# Altium schematic symbol library Xilinx Artix-7.SchLib: 78 symbols (part 5 of 23)
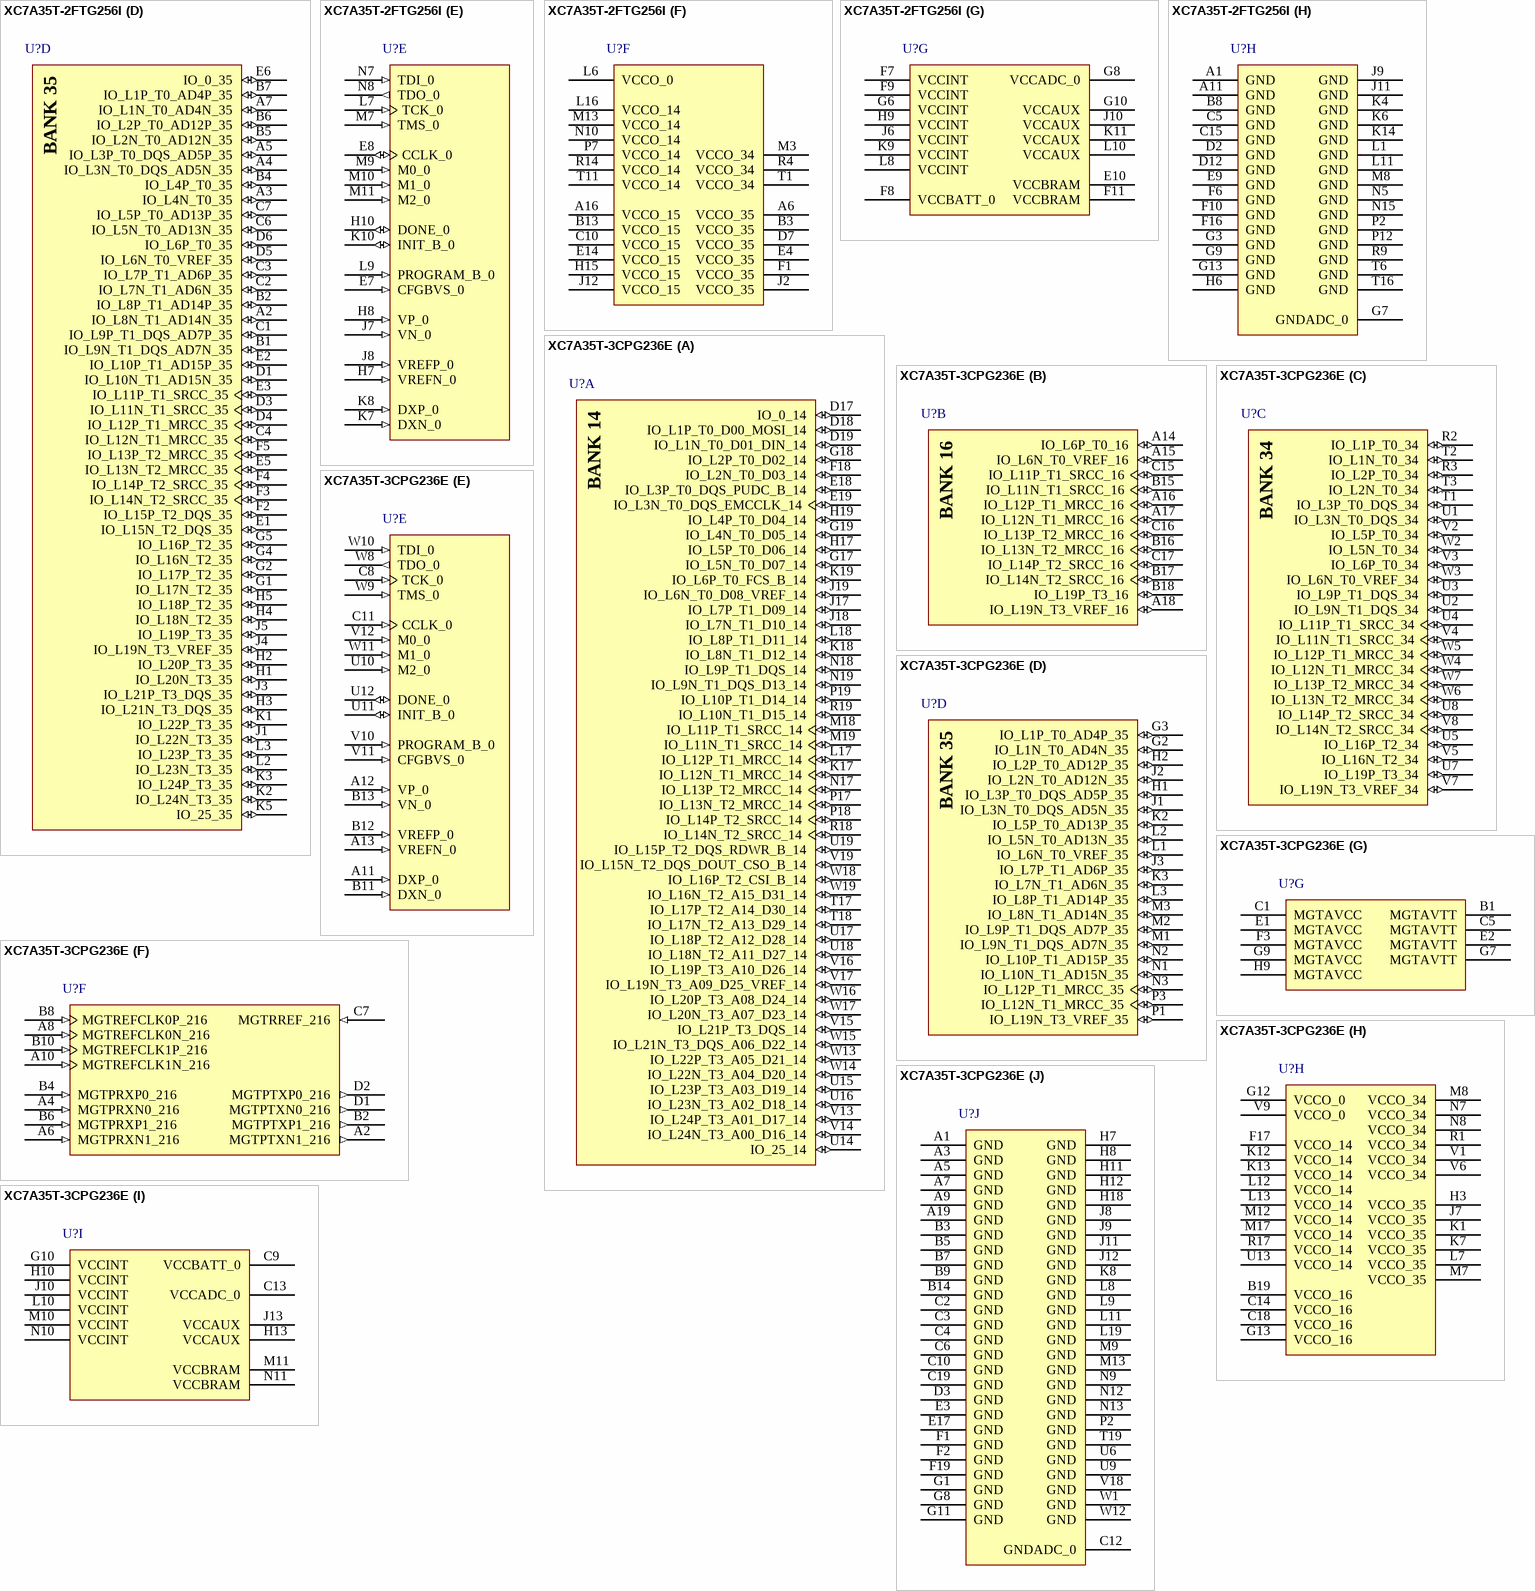
[diagram p131: symbols XC7A35T-2FTG256I to XC7A35T-3CPG236E]

## XC7A35T-3CPG236E
designator U?
Artix-7 FPGA, 106 User I/Os, 2 GTP, 238-Ball BGA, Speed Grade 3, Extended Grade, Pb-Free; Manufacturer: Xilinx; Total Block RAM: 1800 Kb; GTP: 2; Clock Mgmt Tiles (CMTs): 5; Logic Cells: 33280; Available User I/O: 106; Speed Grades: 3; NexusDeviceID: XC7A35T-3CPG236E; DatasheetVersion: v1.15; PackageVersion: Rev. 1.11; PackageReference: CPG-236; PackageDescription: 238-Ball Wire-Bond Chip-Scale BGA, Body 10 x10 mm, Pitch 0.5 mm; Maximum Distributed RAM: 400 Kb; Operating Temperature Range: Extended; Mounting Technology: Surface Mount; PartNumber: XC7A35T-3CPG236E; ComponentLink1Description: Manufacturer URL; ComponentLink1URL: http://www.xilinx.com/; ComponentLink2Description: Datasheet; ComponentLink2URL: http://www.xilinx.com/support/documentation/data_sheets/ds180_7Series_Overview.pdf; ComponentLink3Description: Package Specification; ComponentLink3URL: http://www.xilinx.com/support/documentation/user_guides/ug475_7Series_Pkg_Pinout.pdf; ComponentLink4Description: DC and Switching Characteristics; ComponentLink4URL: http://www.xilinx.com/support/documentation/data_sheets/ds181_Artix_7_Data_Sheet.pdf; ComponentLink5Description: Package File; ComponentLink5URL: http://www.xilinx.com/support/packagefiles/a7packages/xc7a200tsbg484pkg.txt; ComponentLink6Description: Packaging and Pinout; ComponentLink6URL: http://www.xilinx.com/support/documentation/user_guides/ug475_7Series_Pkg_Pinout.pdf
footprint CPG236 (BGA, 238-Ball, Body 10x10mm,Pitch 0.5mm)
part A pins: D17 IO_0_14 (io), D18 IO_L1P_T0_D00_MOSI_14 (io), D19 IO_L1N_T0_D01_DIN_14 (io), E18 IO_L3P_T0_DQS_PUDC_B_14 (io), E19 IO_L3N_T0_DQS_EMCCLK_14 (io), F18 IO_L2N_T0_D03_14 (io), G17 IO_L5N_T0_D07_14 (io), G18 IO_L2P_T0_D02_14 (io), G19 IO_L4N_T0_D05_14 (io), H17 IO_L5P_T0_D06_14 (io), H19 IO_L4P_T0_D04_14 (io), J17 IO_L7P_T1_D09_14 (io), J18 IO_L7N_T1_D10_14 (io), J19 IO_L6N_T0_D08_VREF_14 (io), K17 IO_L12N_T1_MRCC_14 (io), K18 IO_L8N_T1_D12_14 (io), K19 IO_L6P_T0_FCS_B_14 (io), L17 IO_L12P_T1_MRCC_14 (io), L18 IO_L8P_T1_D11_14 (io), M18 IO_L11P_T1_SRCC_14 (io), M19 IO_L11N_T1_SRCC_14 (io), N17 IO_L13P_T2_MRCC_14 (io), N18 IO_L9P_T1_DQS_14 (io), N19 IO_L9N_T1_DQS_D13_14 (io), P17 IO_L13N_T2_MRCC_14 (io), P18 IO_L14P_T2_SRCC_14 (io), P19 IO_L10P_T1_D14_14 (io), R18 IO_L14N_T2_SRCC_14 (io), R19 IO_L10N_T1_D15_14 (io), T17 IO_L17P_T2_A14_D30_14 (io), T18 IO_L17N_T2_A13_D29_14 (io), U14 IO_25_14 (io), U15 IO_L23P_T3_A03_D19_14 (io), U16 IO_L23N_T3_A02_D18_14 (io), U17 IO_L18P_T2_A12_D28_14 (io), U18 IO_L18N_T2_A11_D27_14 (io), U19 IO_L15P_T2_DQS_RDWR_B_14 (io), V13 IO_L24P_T3_A01_D17_14 (io), V14 IO_L24N_T3_A00_D16_14 (io), V15 IO_L21P_T3_DQS_14 (io), V16 IO_L19P_T3_A10_D26_14 (io), V17 IO_L19N_T3_A09_D25_VREF_14 (io), V19 IO_L15N_T2_DQS_DOUT_CSO_B_14 (io), W13 IO_L22P_T3_A05_D21_14 (io), W14 IO_L22N_T3_A04_D20_14 (io), W15 IO_L21N_T3_DQS_A06_D22_14 (io), W16 IO_L20P_T3_A08_D24_14 (io), W17 IO_L20N_T3_A07_D23_14 (io), W18 IO_L16P_T2_CSI_B_14 (io), W19 IO_L16N_T2_A15_D31_14 (io)
part B pins: A14 IO_L6P_T0_16 (io), A15 IO_L6N_T0_VREF_16 (io), A16 IO_L12P_T1_MRCC_16 (io), A17 IO_L12N_T1_MRCC_16 (io), A18 IO_L19N_T3_VREF_16 (io), B15 IO_L11N_T1_SRCC_16 (io), B16 IO_L13N_T2_MRCC_16 (io), B17 IO_L14N_T2_SRCC_16 (io), B18 IO_L19P_T3_16 (io), C15 IO_L11P_T1_SRCC_16 (io), C16 IO_L13P_T2_MRCC_16 (io), C17 IO_L14P_T2_SRCC_16 (io)
part C pins: R2 IO_L1P_T0_34 (io), R3 IO_L2P_T0_34 (io), T1 IO_L3P_T0_DQS_34 (io), T2 IO_L1N_T0_34 (io), T3 IO_L2N_T0_34 (io), U1 IO_L3N_T0_DQS_34 (io), U2 IO_L9N_T1_DQS_34 (io), U3 IO_L9P_T1_DQS_34 (io), U4 IO_L11P_T1_SRCC_34 (io), U5 IO_L16P_T2_34 (io), U7 IO_L19P_T3_34 (io), U8 IO_L14P_T2_SRCC_34 (io), V2 IO_L5P_T0_34 (io), V3 IO_L6P_T0_34 (io), V4 IO_L11N_T1_SRCC_34 (io), V5 IO_L16N_T2_34 (io), V7 IO_L19N_T3_VREF_34 (io), V8 IO_L14N_T2_SRCC_34 (io), W2 IO_L5N_T0_34 (io), W3 IO_L6N_T0_VREF_34 (io), W4 IO_L12N_T1_MRCC_34 (io), W5 IO_L12P_T1_MRCC_34 (io), W6 IO_L13N_T2_MRCC_34 (io), W7 IO_L13P_T2_MRCC_34 (io)
part D pins: G2 IO_L1N_T0_AD4N_35 (io), G3 IO_L1P_T0_AD4P_35 (io), H1 IO_L3P_T0_DQS_AD5P_35 (io), H2 IO_L2P_T0_AD12P_35 (io), J1 IO_L3N_T0_DQS_AD5N_35 (io), J2 IO_L2N_T0_AD12N_35 (io), J3 IO_L7P_T1_AD6P_35 (io), K2 IO_L5P_T0_AD13P_35 (io), K3 IO_L7N_T1_AD6N_35 (io), L1 IO_L6N_T0_VREF_35 (io), L2 IO_L5N_T0_AD13N_35 (io), L3 IO_L8P_T1_AD14P_35 (io), M1 IO_L9N_T1_DQS_AD7N_35 (io), M2 IO_L9P_T1_DQS_AD7P_35 (io), M3 IO_L8N_T1_AD14N_35 (io), N1 IO_L10N_T1_AD15N_35 (io), N2 IO_L10P_T1_AD15P_35 (io), N3 IO_L12P_T1_MRCC_35 (io), P1 IO_L19N_T3_VREF_35 (io), P3 IO_L12N_T1_MRCC_35 (io)
part E pins: A11 DXP_0 (in), A12 VP_0 (in), A13 VREFN_0 (in), B11 DXN_0 (in), B12 VREFP_0 (in), B13 VN_0 (in), C8 TCK_0 (in), C11 CCLK_0 (in), U10 M2_0 (in), U11 INIT_B_0 (io), U12 DONE_0 (io), V10 PROGRAM_B_0 (in), V11 CFGBVS_0 (in), V12 M0_0 (in), W8 TDO_0 (out), W9 TMS_0 (in), W10 TDI_0 (in), W11 M1_0 (in)
part F pins: A2 MGTPTXN1_216 (out), A4 MGTPRXN0_216 (in), A6 MGTPRXN1_216 (in), A8 MGTREFCLK0N_216 (in), A10 MGTREFCLK1N_216 (in), B2 MGTPTXP1_216 (out), B4 MGTPRXP0_216 (in), B6 MGTPRXP1_216 (in), B8 MGTREFCLK0P_216 (in), B10 MGTREFCLK1P_216 (in), C7 MGTRREF_216 (in), D1 MGTPTXN0_216 (out), D2 MGTPTXP0_216 (out)
part G pins: B1 MGTAVTT (power), C1 MGTAVCC (power), C5 MGTAVTT (power), E1 MGTAVCC (power), E2 MGTAVTT (power), F3 MGTAVCC (power), G7 MGTAVTT (power), G9 MGTAVCC (power), H9 MGTAVCC (power)
part H pins: B19 VCCO_16 (power), C14 VCCO_16 (power), C18 VCCO_16 (power), F17 VCCO_14 (power), G12 VCCO_0 (power), G13 VCCO_16 (power), H3 VCCO_35 (power), J7 VCCO_35 (power), K1 VCCO_35 (power), K7 VCCO_35 (power), K12 VCCO_14 (power), K13 VCCO_14 (power), L7 VCCO_35 (power), L12 VCCO_14 (power), L13 VCCO_14 (power), M7 VCCO_35 (power), M8 VCCO_34 (power), M12 VCCO_14 (power), M17 VCCO_14 (power), N7 VCCO_34 (power), N8 VCCO_34 (power), R1 VCCO_34 (power), R17 VCCO_14 (power), U13 VCCO_14 (power), V1 VCCO_34 (power), V6 VCCO_34 (power), V9 VCCO_0 (power)
part I pins: C9 VCCBATT_0 (power), C13 VCCADC_0 (power), G10 VCCINT (power), H10 VCCINT (power), H13 VCCAUX (power), J10 VCCINT (power), J13 VCCAUX (power), L10 VCCINT (power), M10 VCCINT (power), M11 VCCBRAM (power), N10 VCCINT (power), N11 VCCBRAM (power)
part J pins: A1 GND (power), A3 GND (power), A5 GND (power), A7 GND (power), A9 GND (power), A19 GND (power), B3 GND (power), B5 GND (power), B7 GND (power), B9 GND (power), B14 GND (power), C2 GND (power), C3 GND (power), C4 GND (power), C6 GND (power), C10 GND (power), C12 GNDADC_0 (power), C19 GND (power), D3 GND (power), E3 GND (power), E17 GND (power), F1 GND (power), F2 GND (power), F19 GND (power), G1 GND (power), G8 GND (power), G11 GND (power), H7 GND (power), H8 GND (power), H11 GND (power), H12 GND (power), H18 GND (power), J8 GND (power), J9 GND (power), J11 GND (power), J12 GND (power), K8 GND (power), L8 GND (power), L9 GND (power), L11 GND (power), L19 GND (power), M9 GND (power), M13 GND (power), N9 GND (power), N12 GND (power), N13 GND (power), P2 GND (power), T19 GND (power), U6 GND (power), U9 GND (power), V18 GND (power), W1 GND (power), W12 GND (power)
part A text: BANK 14
part B text: BANK 16
part C text: BANK 34
part D text: BANK 35

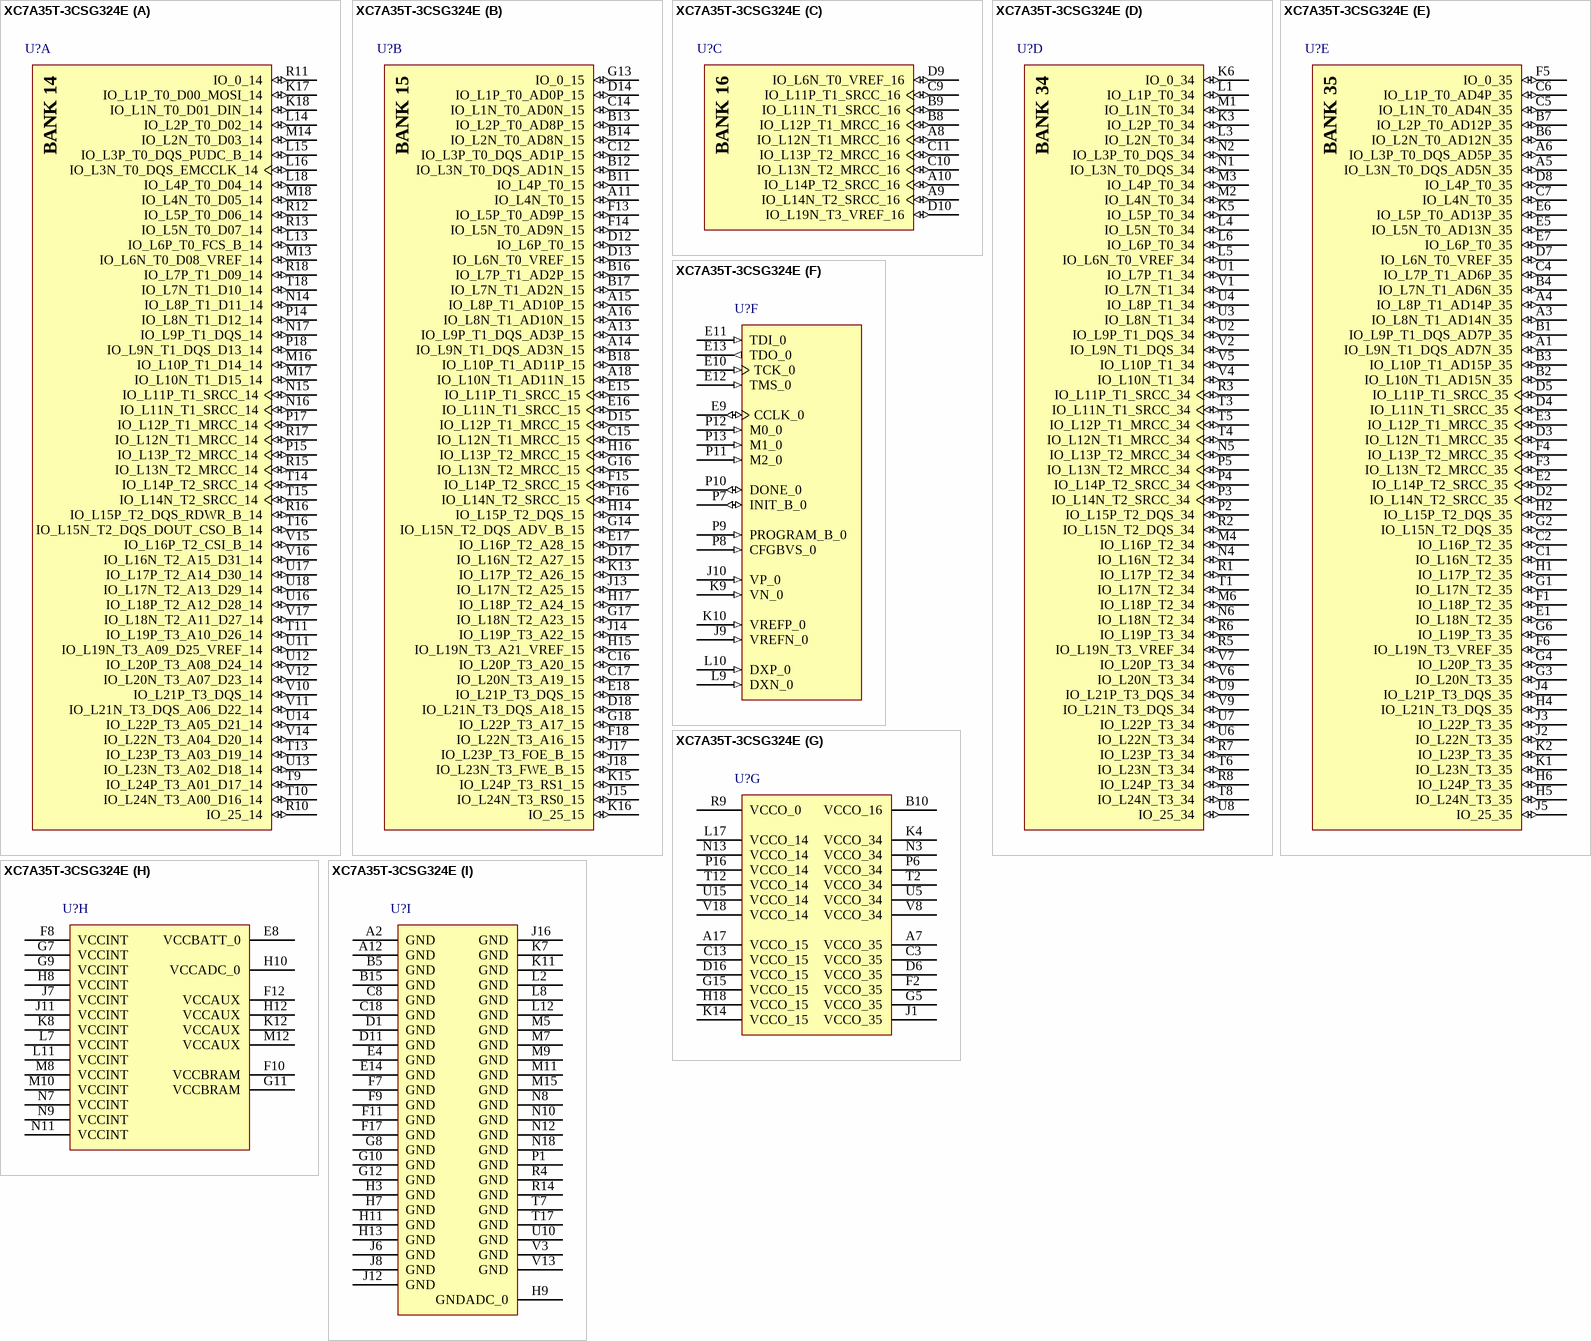
[diagram p21: symbol XC7A35T-3CSG324E]

## XC7A35T-3CSG324E
designator U?
Artix-7 FPGA, 210 User I/Os, 0 GTP, 324-Ball BGA, Speed Grade 3, Extended Grade, Pb-Free; Manufacturer: Xilinx; Total Block RAM: 1800 Kb; GTP: 0; Clock Mgmt Tiles (CMTs): 5; Logic Cells: 33280; Available User I/O: 210; Speed Grades: 3; NexusDeviceID: XC7A35T-3CSG324E; DatasheetVersion: v1.15; PackageVersion: Rev. 1.11; PackageReference: CSG-324; PackageDescription: 324-Ball Wire-Bond Chip-Scale BGA, Body 15 x 15 mm, Pitch 0.8 mm; Maximum Distributed RAM: 400 Kb; Operating Temperature Range: Extended; Mounting Technology: Surface Mount; PartNumber: XC7A35T-3CSG324E; ComponentLink1Description: Manufacturer URL; ComponentLink1URL: http://www.xilinx.com/; ComponentLink2Description: Datasheet; ComponentLink2URL: http://www.xilinx.com/support/documentation/data_sheets/ds180_7Series_Overview.pdf; ComponentLink3Description: Package Specification; ComponentLink3URL: http://www.xilinx.com/support/documentation/user_guides/ug475_7Series_Pkg_Pinout.pdf; ComponentLink4Description: DC and Switching Characteristics; ComponentLink4URL: http://www.xilinx.com/support/documentation/data_sheets/ds181_Artix_7_Data_Sheet.pdf; ComponentLink5Description: Package File; ComponentLink5URL: http://www.xilinx.com/support/packagefiles/a7packages/xc7a200tsbg484pkg.txt; ComponentLink6Description: Packaging and Pinout; ComponentLink6URL: http://www.xilinx.com/support/documentation/user_guides/ug475_7Series_Pkg_Pinout.pdf
footprint CSG324 (BGA, 324-Balls, Body 15x15mm, Pitch 0.8mm)
part A pins: K17 IO_L1P_T0_D00_MOSI_14 (io), K18 IO_L1N_T0_D01_DIN_14 (io), L13 IO_L6P_T0_FCS_B_14 (io), L14 IO_L2P_T0_D02_14 (io), L15 IO_L3P_T0_DQS_PUDC_B_14 (io), L16 IO_L3N_T0_DQS_EMCCLK_14 (io), L18 IO_L4P_T0_D04_14 (io), M13 IO_L6N_T0_D08_VREF_14 (io), M14 IO_L2N_T0_D03_14 (io), M16 IO_L10P_T1_D14_14 (io), M17 IO_L10N_T1_D15_14 (io), M18 IO_L4N_T0_D05_14 (io), N14 IO_L8P_T1_D11_14 (io), N15 IO_L11P_T1_SRCC_14 (io), N16 IO_L11N_T1_SRCC_14 (io), N17 IO_L9P_T1_DQS_14 (io), P14 IO_L8N_T1_D12_14 (io), P15 IO_L13P_T2_MRCC_14 (io), P17 IO_L12P_T1_MRCC_14 (io), P18 IO_L9N_T1_DQS_D13_14 (io), R10 IO_25_14 (io), R11 IO_0_14 (io), R12 IO_L5P_T0_D06_14 (io), R13 IO_L5N_T0_D07_14 (io), R15 IO_L13N_T2_MRCC_14 (io), R16 IO_L15P_T2_DQS_RDWR_B_14 (io), R17 IO_L12N_T1_MRCC_14 (io), R18 IO_L7P_T1_D09_14 (io), T9 IO_L24P_T3_A01_D17_14 (io), T10 IO_L24N_T3_A00_D16_14 (io), T11 IO_L19P_T3_A10_D26_14 (io), T13 IO_L23P_T3_A03_D19_14 (io), T14 IO_L14P_T2_SRCC_14 (io), T15 IO_L14N_T2_SRCC_14 (io), T16 IO_L15N_T2_DQS_DOUT_CSO_B_14 (io), T18 IO_L7N_T1_D10_14 (io), U11 IO_L19N_T3_A09_D25_VREF_14 (io), U12 IO_L20P_T3_A08_D24_14 (io), U13 IO_L23N_T3_A02_D18_14 (io), U14 IO_L22P_T3_A05_D21_14 (io), U16 IO_L18P_T2_A12_D28_14 (io), U17 IO_L17P_T2_A14_D30_14 (io), U18 IO_L17N_T2_A13_D29_14 (io), V10 IO_L21P_T3_DQS_14 (io), V11 IO_L21N_T3_DQS_A06_D22_14 (io), V12 IO_L20N_T3_A07_D23_14 (io), V14 IO_L22N_T3_A04_D20_14 (io), V15 IO_L16P_T2_CSI_B_14 (io), V16 IO_L16N_T2_A15_D31_14 (io), V17 IO_L18N_T2_A11_D27_14 (io)
part B pins: A11 IO_L4N_T0_15 (io), A13 IO_L9P_T1_DQS_AD3P_15 (io), A14 IO_L9N_T1_DQS_AD3N_15 (io), A15 IO_L8P_T1_AD10P_15 (io), A16 IO_L8N_T1_AD10N_15 (io), A18 IO_L10N_T1_AD11N_15 (io), B11 IO_L4P_T0_15 (io), B12 IO_L3N_T0_DQS_AD1N_15 (io), B13 IO_L2P_T0_AD8P_15 (io), B14 IO_L2N_T0_AD8N_15 (io), B16 IO_L7P_T1_AD2P_15 (io), B17 IO_L7N_T1_AD2N_15 (io), B18 IO_L10P_T1_AD11P_15 (io), C12 IO_L3P_T0_DQS_AD1P_15 (io), C14 IO_L1N_T0_AD0N_15 (io), C15 IO_L12N_T1_MRCC_15 (io), C16 IO_L20P_T3_A20_15 (io), C17 IO_L20N_T3_A19_15 (io), D12 IO_L6P_T0_15 (io), D13 IO_L6N_T0_VREF_15 (io), D14 IO_L1P_T0_AD0P_15 (io), D15 IO_L12P_T1_MRCC_15 (io), D17 IO_L16N_T2_A27_15 (io), D18 IO_L21N_T3_DQS_A18_15 (io), E15 IO_L11P_T1_SRCC_15 (io), E16 IO_L11N_T1_SRCC_15 (io), E17 IO_L16P_T2_A28_15 (io), E18 IO_L21P_T3_DQS_15 (io), F13 IO_L5P_T0_AD9P_15 (io), F14 IO_L5N_T0_AD9N_15 (io), F15 IO_L14P_T2_SRCC_15 (io), F16 IO_L14N_T2_SRCC_15 (io), F18 IO_L22N_T3_A16_15 (io), G13 IO_0_15 (io), G14 IO_L15N_T2_DQS_ADV_B_15 (io), G16 IO_L13N_T2_MRCC_15 (io), G17 IO_L18N_T2_A23_15 (io), G18 IO_L22P_T3_A17_15 (io), H14 IO_L15P_T2_DQS_15 (io), H15 IO_L19N_T3_A21_VREF_15 (io), H16 IO_L13P_T2_MRCC_15 (io), H17 IO_L18P_T2_A24_15 (io), J13 IO_L17N_T2_A25_15 (io), J14 IO_L19P_T3_A22_15 (io), J15 IO_L24N_T3_RS0_15 (io), J17 IO_L23P_T3_FOE_B_15 (io), J18 IO_L23N_T3_FWE_B_15 (io), K13 IO_L17P_T2_A26_15 (io), K15 IO_L24P_T3_RS1_15 (io), K16 IO_25_15 (io)
part C pins: A8 IO_L12N_T1_MRCC_16 (io), A9 IO_L14N_T2_SRCC_16 (io), A10 IO_L14P_T2_SRCC_16 (io), B8 IO_L12P_T1_MRCC_16 (io), B9 IO_L11N_T1_SRCC_16 (io), C9 IO_L11P_T1_SRCC_16 (io), C10 IO_L13N_T2_MRCC_16 (io), C11 IO_L13P_T2_MRCC_16 (io), D9 IO_L6N_T0_VREF_16 (io), D10 IO_L19N_T3_VREF_16 (io)
part D pins: K3 IO_L2P_T0_34 (io), K5 IO_L5P_T0_34 (io), K6 IO_0_34 (io), L1 IO_L1P_T0_34 (io), L3 IO_L2N_T0_34 (io), L4 IO_L5N_T0_34 (io), L5 IO_L6N_T0_VREF_34 (io), L6 IO_L6P_T0_34 (io), M1 IO_L1N_T0_34 (io), M2 IO_L4N_T0_34 (io), M3 IO_L4P_T0_34 (io), M4 IO_L16P_T2_34 (io), M6 IO_L18P_T2_34 (io), N1 IO_L3N_T0_DQS_34 (io), N2 IO_L3P_T0_DQS_34 (io), N4 IO_L16N_T2_34 (io), N5 IO_L13P_T2_MRCC_34 (io), N6 IO_L18N_T2_34 (io), P2 IO_L15P_T2_DQS_34 (io), P3 IO_L14N_T2_SRCC_34 (io), P4 IO_L14P_T2_SRCC_34 (io), P5 IO_L13N_T2_MRCC_34 (io), R1 IO_L17P_T2_34 (io), R2 IO_L15N_T2_DQS_34 (io), R3 IO_L11P_T1_SRCC_34 (io), R5 IO_L19N_T3_VREF_34 (io), R6 IO_L19P_T3_34 (io), R7 IO_L23P_T3_34 (io), R8 IO_L24P_T3_34 (io), T1 IO_L17N_T2_34 (io), T3 IO_L11N_T1_SRCC_34 (io), T4 IO_L12N_T1_MRCC_34 (io), T5 IO_L12P_T1_MRCC_34 (io), T6 IO_L23N_T3_34 (io), T8 IO_L24N_T3_34 (io), U1 IO_L7P_T1_34 (io), U2 IO_L9P_T1_DQS_34 (io), U3 IO_L8N_T1_34 (io), U4 IO_L8P_T1_34 (io), U6 IO_L22N_T3_34 (io), U7 IO_L22P_T3_34 (io), U8 IO_25_34 (io), U9 IO_L21P_T3_DQS_34 (io), V1 IO_L7N_T1_34 (io), V2 IO_L9N_T1_DQS_34 (io), V4 IO_L10N_T1_34 (io), V5 IO_L10P_T1_34 (io), V6 IO_L20N_T3_34 (io), V7 IO_L20P_T3_34 (io), V9 IO_L21N_T3_DQS_34 (io)
part E pins: A1 IO_L9N_T1_DQS_AD7N_35 (io), A3 IO_L8N_T1_AD14N_35 (io), A4 IO_L8P_T1_AD14P_35 (io), A5 IO_L3N_T0_DQS_AD5N_35 (io), A6 IO_L3P_T0_DQS_AD5P_35 (io), B1 IO_L9P_T1_DQS_AD7P_35 (io), B2 IO_L10N_T1_AD15N_35 (io), B3 IO_L10P_T1_AD15P_35 (io), B4 IO_L7N_T1_AD6N_35 (io), B6 IO_L2N_T0_AD12N_35 (io), B7 IO_L2P_T0_AD12P_35 (io), C1 IO_L16N_T2_35 (io), C2 IO_L16P_T2_35 (io), C4 IO_L7P_T1_AD6P_35 (io), C5 IO_L1N_T0_AD4N_35 (io), C6 IO_L1P_T0_AD4P_35 (io), C7 IO_L4N_T0_35 (io), D2 IO_L14N_T2_SRCC_35 (io), D3 IO_L12N_T1_MRCC_35 (io), D4 IO_L11N_T1_SRCC_35 (io), D5 IO_L11P_T1_SRCC_35 (io), D7 IO_L6N_T0_VREF_35 (io), D8 IO_L4P_T0_35 (io), E1 IO_L18N_T2_35 (io), E2 IO_L14P_T2_SRCC_35 (io), E3 IO_L12P_T1_MRCC_35 (io), E5 IO_L5N_T0_AD13N_35 (io), E6 IO_L5P_T0_AD13P_35 (io), E7 IO_L6P_T0_35 (io), F1 IO_L18P_T2_35 (io), F3 IO_L13N_T2_MRCC_35 (io), F4 IO_L13P_T2_MRCC_35 (io), F5 IO_0_35 (io), F6 IO_L19N_T3_VREF_35 (io), G1 IO_L17N_T2_35 (io), G2 IO_L15N_T2_DQS_35 (io), G3 IO_L20N_T3_35 (io), G4 IO_L20P_T3_35 (io), G6 IO_L19P_T3_35 (io), H1 IO_L17P_T2_35 (io), H2 IO_L15P_T2_DQS_35 (io), H4 IO_L21N_T3_DQS_35 (io), H5 IO_L24N_T3_35 (io), H6 IO_L24P_T3_35 (io), J2 IO_L22N_T3_35 (io), J3 IO_L22P_T3_35 (io), J4 IO_L21P_T3_DQS_35 (io), J5 IO_25_35 (io), K1 IO_L23N_T3_35 (io), K2 IO_L23P_T3_35 (io)
part F pins: E9 CCLK_0 (io), E10 TCK_0 (in), E11 TDI_0 (in), E12 TMS_0 (in), E13 TDO_0 (out), J9 VREFN_0 (in), J10 VP_0 (in), K9 VN_0 (in), K10 VREFP_0 (in), L9 DXN_0 (in), L10 DXP_0 (in), P7 INIT_B_0 (io), P8 CFGBVS_0 (in), P9 PROGRAM_B_0 (in), P10 DONE_0 (io), P11 M2_0 (in), P12 M0_0 (in), P13 M1_0 (in)
part G pins: A7 VCCO_35 (power), A17 VCCO_15 (power), B10 VCCO_16 (power), C3 VCCO_35 (power), C13 VCCO_15 (power), D6 VCCO_35 (power), D16 VCCO_15 (power), F2 VCCO_35 (power), G5 VCCO_35 (power), G15 VCCO_15 (power), H18 VCCO_15 (power), J1 VCCO_35 (power), K4 VCCO_34 (power), K14 VCCO_15 (power), L17 VCCO_14 (power), N3 VCCO_34 (power), N13 VCCO_14 (power), P6 VCCO_34 (power), P16 VCCO_14 (power), R9 VCCO_0 (power), T2 VCCO_34 (power), T12 VCCO_14 (power), U5 VCCO_34 (power), U15 VCCO_14 (power), V8 VCCO_34 (power), V18 VCCO_14 (power)
part H pins: E8 VCCBATT_0 (power), F8 VCCINT (power), F10 VCCBRAM (power), F12 VCCAUX (power), G7 VCCINT (power), G9 VCCINT (power), G11 VCCBRAM (power), H8 VCCINT (power), H10 VCCADC_0 (power), H12 VCCAUX (power), J7 VCCINT (power), J11 VCCINT (power), K8 VCCINT (power), K12 VCCAUX (power), L7 VCCINT (power), L11 VCCINT (power), M8 VCCINT (power), M10 VCCINT (power), M12 VCCAUX (power), N7 VCCINT (power), N9 VCCINT (power), N11 VCCINT (power)
part I pins: A2 GND (power), A12 GND (power), B5 GND (power), B15 GND (power), C8 GND (power), C18 GND (power), D1 GND (power), D11 GND (power), E4 GND (power), E14 GND (power), F7 GND (power), F9 GND (power), F11 GND (power), F17 GND (power), G8 GND (power), G10 GND (power), G12 GND (power), H3 GND (power), H7 GND (power), H9 GNDADC_0 (power), H11 GND (power), H13 GND (power), J6 GND (power), J8 GND (power), J12 GND (power), J16 GND (power), K7 GND (power), K11 GND (power), L2 GND (power), L8 GND (power), L12 GND (power), M5 GND (power), M7 GND (power), M9 GND (power), M11 GND (power), M15 GND (power), N8 GND (power), N10 GND (power), N12 GND (power), N18 GND (power), P1 GND (power), R4 GND (power), R14 GND (power), T7 GND (power), T17 GND (power), U10 GND (power), V3 GND (power), V13 GND (power)
part A text: BANK 14
part B text: BANK 15
part C text: BANK 16
part D text: BANK 34
part E text: BANK 35

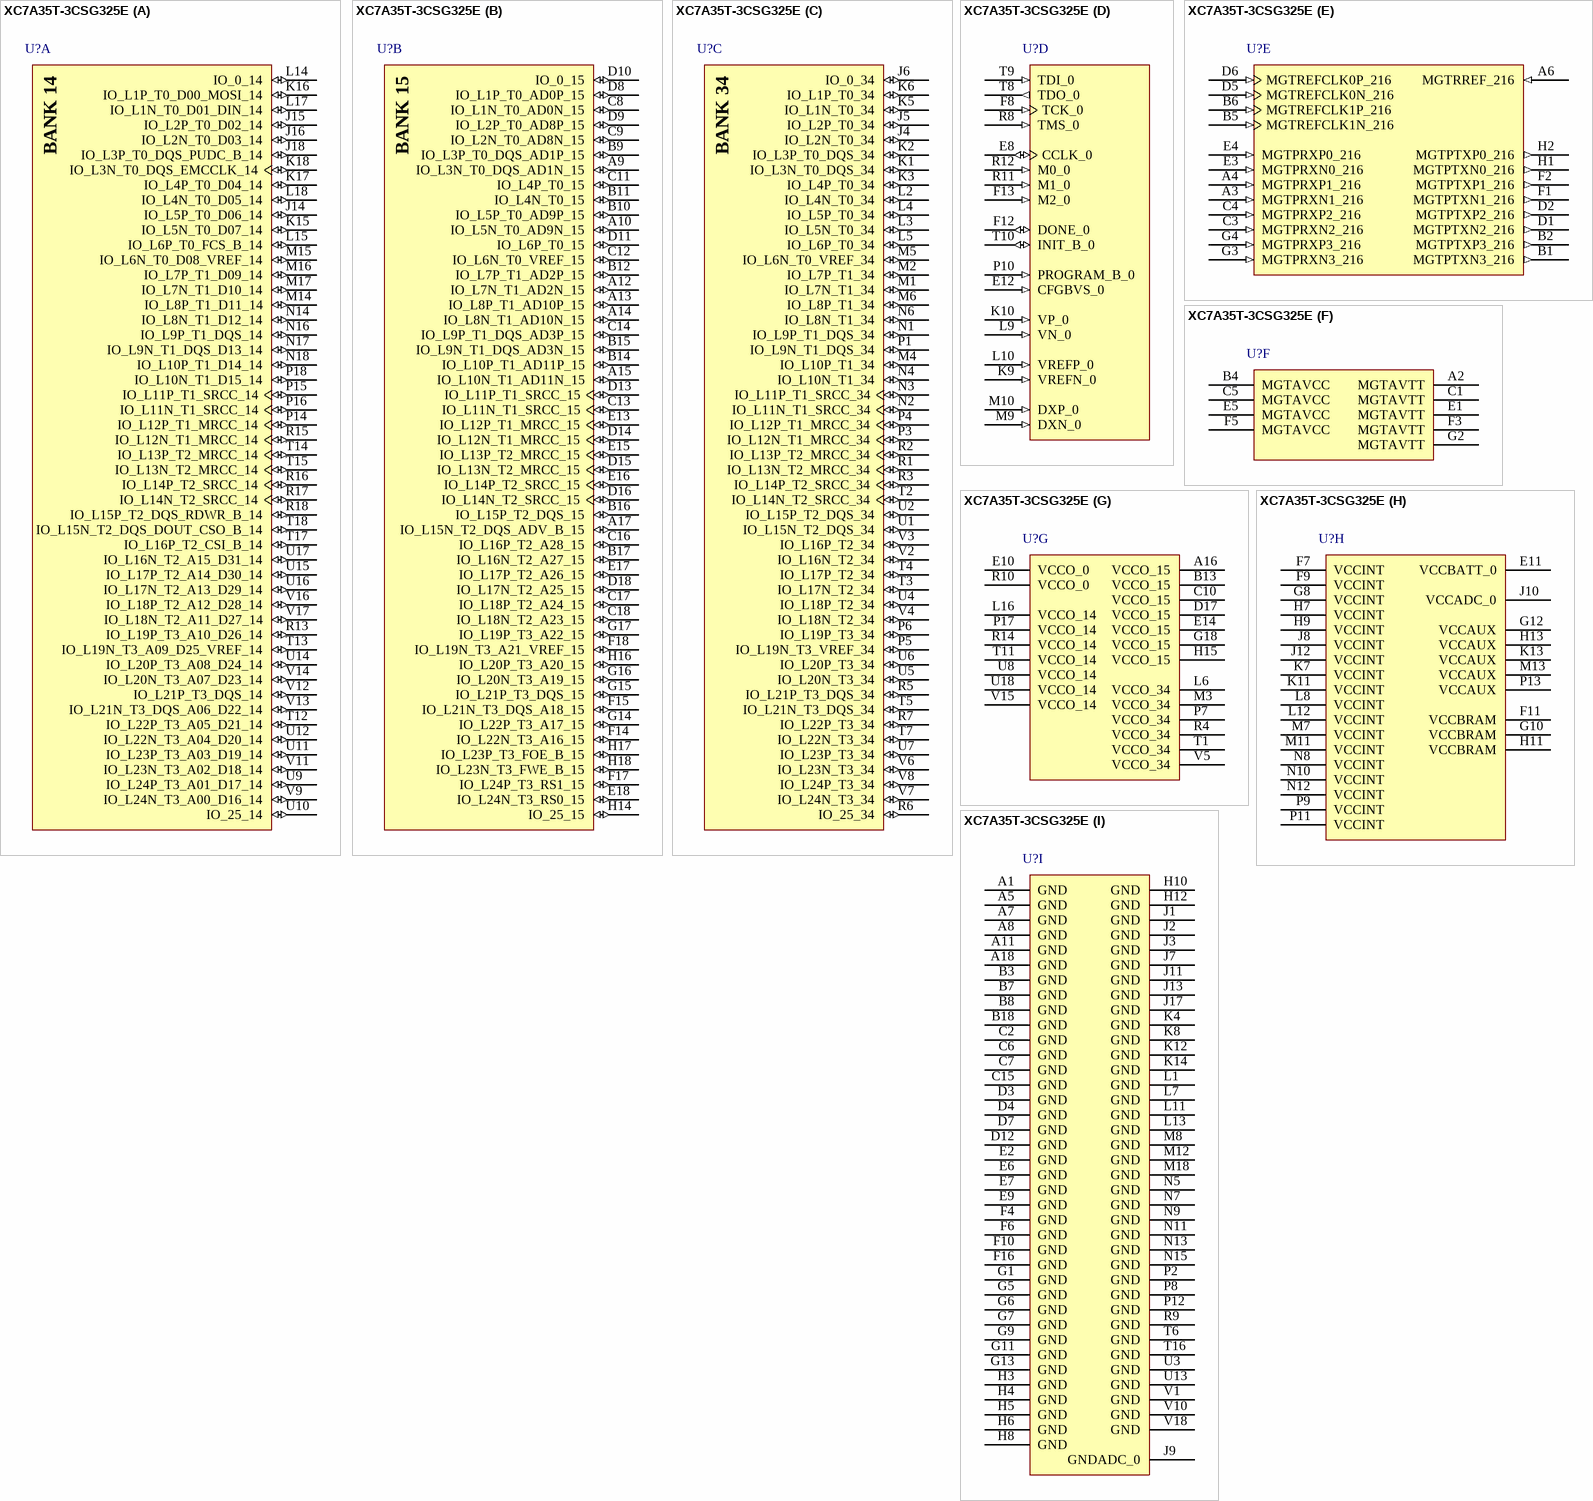
[diagram p22: symbol XC7A35T-3CSG325E]

## XC7A35T-3CSG325E
designator U?
Artix-7 FPGA, 150 User I/Os, 4 GTP, 324-Ball BGA, Speed Grade 3, Extended Grade, Pb-Free; Manufacturer: Xilinx; Total Block RAM: 1800 Kb; GTP: 4; Clock Mgmt Tiles (CMTs): 5; Logic Cells: 33280; Available User I/O: 150; Speed Grades: 3; NexusDeviceID: XC7A35T-3CSG325E; DatasheetVersion: v1.15; PackageVersion: Rev. 1.11; PackageReference: CSG-325; PackageDescription: 324-Ball Wire-Bond Chip-Scale BGA, Body 15 x 15 mm, Pitch 0.8 mm; Maximum Distributed RAM: 400 Kb; Operating Temperature Range: Extended; Mounting Technology: Surface Mount; PartNumber: XC7A35T-3CSG325E; ComponentLink1Description: Manufacturer URL; ComponentLink1URL: http://www.xilinx.com/; ComponentLink2Description: Datasheet; ComponentLink2URL: http://www.xilinx.com/support/documentation/data_sheets/ds180_7Series_Overview.pdf; ComponentLink3Description: Package Specification; ComponentLink3URL: http://www.xilinx.com/support/documentation/user_guides/ug475_7Series_Pkg_Pinout.pdf; ComponentLink4Description: DC and Switching Characteristics; ComponentLink4URL: http://www.xilinx.com/support/documentation/data_sheets/ds181_Artix_7_Data_Sheet.pdf; ComponentLink5Description: Package File; ComponentLink5URL: http://www.xilinx.com/support/packagefiles/a7packages/xc7a200tsbg484pkg.txt; ComponentLink6Description: Packaging and Pinout; ComponentLink6URL: http://www.xilinx.com/support/documentation/user_guides/ug475_7Series_Pkg_Pinout.pdf
footprint CSG325 (BGA, 324-Balls, Body 15x15mm, Pitch 0.8mm)
part A pins: J14 IO_L5P_T0_D06_14 (io), J15 IO_L2P_T0_D02_14 (io), J16 IO_L2N_T0_D03_14 (io), J18 IO_L3P_T0_DQS_PUDC_B_14 (io), K15 IO_L5N_T0_D07_14 (io), K16 IO_L1P_T0_D00_MOSI_14 (io), K17 IO_L4P_T0_D04_14 (io), K18 IO_L3N_T0_DQS_EMCCLK_14 (io), L14 IO_0_14 (io), L15 IO_L6P_T0_FCS_B_14 (io), L17 IO_L1N_T0_D01_DIN_14 (io), L18 IO_L4N_T0_D05_14 (io), M14 IO_L8P_T1_D11_14 (io), M15 IO_L6N_T0_D08_VREF_14 (io), M16 IO_L7P_T1_D09_14 (io), M17 IO_L7N_T1_D10_14 (io), N14 IO_L8N_T1_D12_14 (io), N16 IO_L9P_T1_DQS_14 (io), N17 IO_L9N_T1_DQS_D13_14 (io), N18 IO_L10P_T1_D14_14 (io), P14 IO_L12P_T1_MRCC_14 (io), P15 IO_L11P_T1_SRCC_14 (io), P16 IO_L11N_T1_SRCC_14 (io), P18 IO_L10N_T1_D15_14 (io), R13 IO_L19P_T3_A10_D26_14 (io), R15 IO_L12N_T1_MRCC_14 (io), R16 IO_L14P_T2_SRCC_14 (io), R17 IO_L14N_T2_SRCC_14 (io), R18 IO_L15P_T2_DQS_RDWR_B_14 (io), T12 IO_L22P_T3_A05_D21_14 (io), T13 IO_L19N_T3_A09_D25_VREF_14 (io), T14 IO_L13P_T2_MRCC_14 (io), T15 IO_L13N_T2_MRCC_14 (io), T17 IO_L16P_T2_CSI_B_14 (io), T18 IO_L15N_T2_DQS_DOUT_CSO_B_14 (io), U9 IO_L24P_T3_A01_D17_14 (io), U10 IO_25_14 (io), U11 IO_L23P_T3_A03_D19_14 (io), U12 IO_L22N_T3_A04_D20_14 (io), U14 IO_L20P_T3_A08_D24_14 (io), U15 IO_L17P_T2_A14_D30_14 (io), U16 IO_L17N_T2_A13_D29_14 (io), U17 IO_L16N_T2_A15_D31_14 (io), V9 IO_L24N_T3_A00_D16_14 (io), V11 IO_L23N_T3_A02_D18_14 (io), V12 IO_L21P_T3_DQS_14 (io), V13 IO_L21N_T3_DQS_A06_D22_14 (io), V14 IO_L20N_T3_A07_D23_14 (io), V16 IO_L18P_T2_A12_D28_14 (io), V17 IO_L18N_T2_A11_D27_14 (io)
part B pins: A9 IO_L3N_T0_DQS_AD1N_15 (io), A10 IO_L5N_T0_AD9N_15 (io), A12 IO_L7N_T1_AD2N_15 (io), A13 IO_L8P_T1_AD10P_15 (io), A14 IO_L8N_T1_AD10N_15 (io), A15 IO_L10N_T1_AD11N_15 (io), A17 IO_L15N_T2_DQS_ADV_B_15 (io), B9 IO_L3P_T0_DQS_AD1P_15 (io), B10 IO_L5P_T0_AD9P_15 (io), B11 IO_L4N_T0_15 (io), B12 IO_L7P_T1_AD2P_15 (io), B14 IO_L10P_T1_AD11P_15 (io), B15 IO_L9N_T1_DQS_AD3N_15 (io), B16 IO_L15P_T2_DQS_15 (io), B17 IO_L16N_T2_A27_15 (io), C8 IO_L1N_T0_AD0N_15 (io), C9 IO_L2N_T0_AD8N_15 (io), C11 IO_L4P_T0_15 (io), C12 IO_L6N_T0_VREF_15 (io), C13 IO_L11N_T1_SRCC_15 (io), C14 IO_L9P_T1_DQS_AD3P_15 (io), C16 IO_L16P_T2_A28_15 (io), C17 IO_L18P_T2_A24_15 (io), C18 IO_L18N_T2_A23_15 (io), D8 IO_L1P_T0_AD0P_15 (io), D9 IO_L2P_T0_AD8P_15 (io), D10 IO_0_15 (io), D11 IO_L6P_T0_15 (io), D13 IO_L11P_T1_SRCC_15 (io), D14 IO_L12N_T1_MRCC_15 (io), D15 IO_L13N_T2_MRCC_15 (io), D16 IO_L14N_T2_SRCC_15 (io), D18 IO_L17N_T2_A25_15 (io), E13 IO_L12P_T1_MRCC_15 (io), E15 IO_L13P_T2_MRCC_15 (io), E16 IO_L14P_T2_SRCC_15 (io), E17 IO_L17P_T2_A26_15 (io), E18 IO_L24N_T3_RS0_15 (io), F14 IO_L22N_T3_A16_15 (io), F15 IO_L21N_T3_DQS_A18_15 (io), F17 IO_L24P_T3_RS1_15 (io), F18 IO_L19N_T3_A21_VREF_15 (io), G14 IO_L22P_T3_A17_15 (io), G15 IO_L21P_T3_DQS_15 (io), G16 IO_L20N_T3_A19_15 (io), G17 IO_L19P_T3_A22_15 (io), H14 IO_25_15 (io), H16 IO_L20P_T3_A20_15 (io), H17 IO_L23P_T3_FOE_B_15 (io), H18 IO_L23N_T3_FWE_B_15 (io)
part C pins: J4 IO_L2N_T0_34 (io), J5 IO_L2P_T0_34 (io), J6 IO_0_34 (io), K1 IO_L3N_T0_DQS_34 (io), K2 IO_L3P_T0_DQS_34 (io), K3 IO_L4P_T0_34 (io), K5 IO_L1N_T0_34 (io), K6 IO_L1P_T0_34 (io), L2 IO_L4N_T0_34 (io), L3 IO_L5N_T0_34 (io), L4 IO_L5P_T0_34 (io), L5 IO_L6P_T0_34 (io), M1 IO_L7N_T1_34 (io), M2 IO_L7P_T1_34 (io), M4 IO_L10P_T1_34 (io), M5 IO_L6N_T0_VREF_34 (io), M6 IO_L8P_T1_34 (io), N1 IO_L9P_T1_DQS_34 (io), N2 IO_L11N_T1_SRCC_34 (io), N3 IO_L11P_T1_SRCC_34 (io), N4 IO_L10N_T1_34 (io), N6 IO_L8N_T1_34 (io), P1 IO_L9N_T1_DQS_34 (io), P3 IO_L12N_T1_MRCC_34 (io), P4 IO_L12P_T1_MRCC_34 (io), P5 IO_L19N_T3_VREF_34 (io), P6 IO_L19P_T3_34 (io), R1 IO_L13N_T2_MRCC_34 (io), R2 IO_L13P_T2_MRCC_34 (io), R3 IO_L14P_T2_SRCC_34 (io), R5 IO_L21P_T3_DQS_34 (io), R6 IO_25_34 (io), R7 IO_L22P_T3_34 (io), T2 IO_L14N_T2_SRCC_34 (io), T3 IO_L17N_T2_34 (io), T4 IO_L17P_T2_34 (io), T5 IO_L21N_T3_DQS_34 (io), T7 IO_L22N_T3_34 (io), U1 IO_L15N_T2_DQS_34 (io), U2 IO_L15P_T2_DQS_34 (io), U4 IO_L18P_T2_34 (io), U5 IO_L20N_T3_34 (io), U6 IO_L20P_T3_34 (io), U7 IO_L23P_T3_34 (io), V2 IO_L16N_T2_34 (io), V3 IO_L16P_T2_34 (io), V4 IO_L18N_T2_34 (io), V6 IO_L23N_T3_34 (io), V7 IO_L24N_T3_34 (io), V8 IO_L24P_T3_34 (io)
part D pins: E8 CCLK_0 (io), E12 CFGBVS_0 (in), F8 TCK_0 (in), F12 DONE_0 (io), F13 M2_0 (in), K9 VREFN_0 (in), K10 VP_0 (in), L9 VN_0 (in), L10 VREFP_0 (in), M9 DXN_0 (in), M10 DXP_0 (in), P10 PROGRAM_B_0 (in), R8 TMS_0 (in), R11 M1_0 (in), R12 M0_0 (in), T8 TDO_0 (out), T9 TDI_0 (in), T10 INIT_B_0 (io)
part E pins: A3 MGTPRXN1_216 (in), A4 MGTPRXP1_216 (in), A6 MGTRREF_216 (in), B1 MGTPTXN3_216 (out), B2 MGTPTXP3_216 (out), B5 MGTREFCLK1N_216 (in), B6 MGTREFCLK1P_216 (in), C3 MGTPRXN2_216 (in), C4 MGTPRXP2_216 (in), D1 MGTPTXN2_216 (out), D2 MGTPTXP2_216 (out), D5 MGTREFCLK0N_216 (in), D6 MGTREFCLK0P_216 (in), E3 MGTPRXN0_216 (in), E4 MGTPRXP0_216 (in), F1 MGTPTXN1_216 (out), F2 MGTPTXP1_216 (out), G3 MGTPRXN3_216 (in), G4 MGTPRXP3_216 (in), H1 MGTPTXN0_216 (out), H2 MGTPTXP0_216 (out)
part F pins: A2 MGTAVTT (power), B4 MGTAVCC (power), C1 MGTAVTT (power), C5 MGTAVCC (power), E1 MGTAVTT (power), E5 MGTAVCC (power), F3 MGTAVTT (power), F5 MGTAVCC (power), G2 MGTAVTT (power)
part G pins: A16 VCCO_15 (power), B13 VCCO_15 (power), C10 VCCO_15 (power), D17 VCCO_15 (power), E10 VCCO_0 (power), E14 VCCO_15 (power), G18 VCCO_15 (power), H15 VCCO_15 (power), L6 VCCO_34 (power), L16 VCCO_14 (power), M3 VCCO_34 (power), P7 VCCO_34 (power), P17 VCCO_14 (power), R4 VCCO_34 (power), R10 VCCO_0 (power), R14 VCCO_14 (power), T1 VCCO_34 (power), T11 VCCO_14 (power), U8 VCCO_14 (power), U18 VCCO_14 (power), V5 VCCO_34 (power), V15 VCCO_14 (power)
part H pins: E11 VCCBATT_0 (power), F7 VCCINT (power), F9 VCCINT (power), F11 VCCBRAM (power), G8 VCCINT (power), G10 VCCBRAM (power), G12 VCCAUX (power), H7 VCCINT (power), H9 VCCINT (power), H11 VCCBRAM (power), H13 VCCAUX (power), J8 VCCINT (power), J10 VCCADC_0 (power), J12 VCCINT (power), K7 VCCINT (power), K11 VCCINT (power), K13 VCCAUX (power), L8 VCCINT (power), L12 VCCINT (power), M7 VCCINT (power), M11 VCCINT (power), M13 VCCAUX (power), N8 VCCINT (power), N10 VCCINT (power), N12 VCCINT (power), P9 VCCINT (power), P11 VCCINT (power), P13 VCCAUX (power)
part I pins: A1 GND (power), A5 GND (power), A7 GND (power), A8 GND (power), A11 GND (power), A18 GND (power), B3 GND (power), B7 GND (power), B8 GND (power), B18 GND (power), C2 GND (power), C6 GND (power), C7 GND (power), C15 GND (power), D3 GND (power), D4 GND (power), D7 GND (power), D12 GND (power), E2 GND (power), E6 GND (power), E7 GND (power), E9 GND (power), F4 GND (power), F6 GND (power), F10 GND (power), F16 GND (power), G1 GND (power), G5 GND (power), G6 GND (power), G7 GND (power), G9 GND (power), G11 GND (power), G13 GND (power), H3 GND (power), H4 GND (power), H5 GND (power), H6 GND (power), H8 GND (power), H10 GND (power), H12 GND (power), J1 GND (power), J2 GND (power), J3 GND (power), J7 GND (power), J9 GNDADC_0 (power), J11 GND (power), J13 GND (power), J17 GND (power), K4 GND (power), K8 GND (power), K12 GND (power), K14 GND (power), L1 GND (power), L7 GND (power), L11 GND (power), L13 GND (power), M8 GND (power), M12 GND (power), M18 GND (power), N5 GND (power), N7 GND (power), N9 GND (power), N11 GND (power), N13 GND (power), N15 GND (power), P2 GND (power), P8 GND (power), P12 GND (power), R9 GND (power), T6 GND (power), T16 GND (power), U3 GND (power), U13 GND (power), V1 GND (power), V10 GND (power), V18 GND (power)
part A text: BANK 14
part B text: BANK 15
part C text: BANK 34

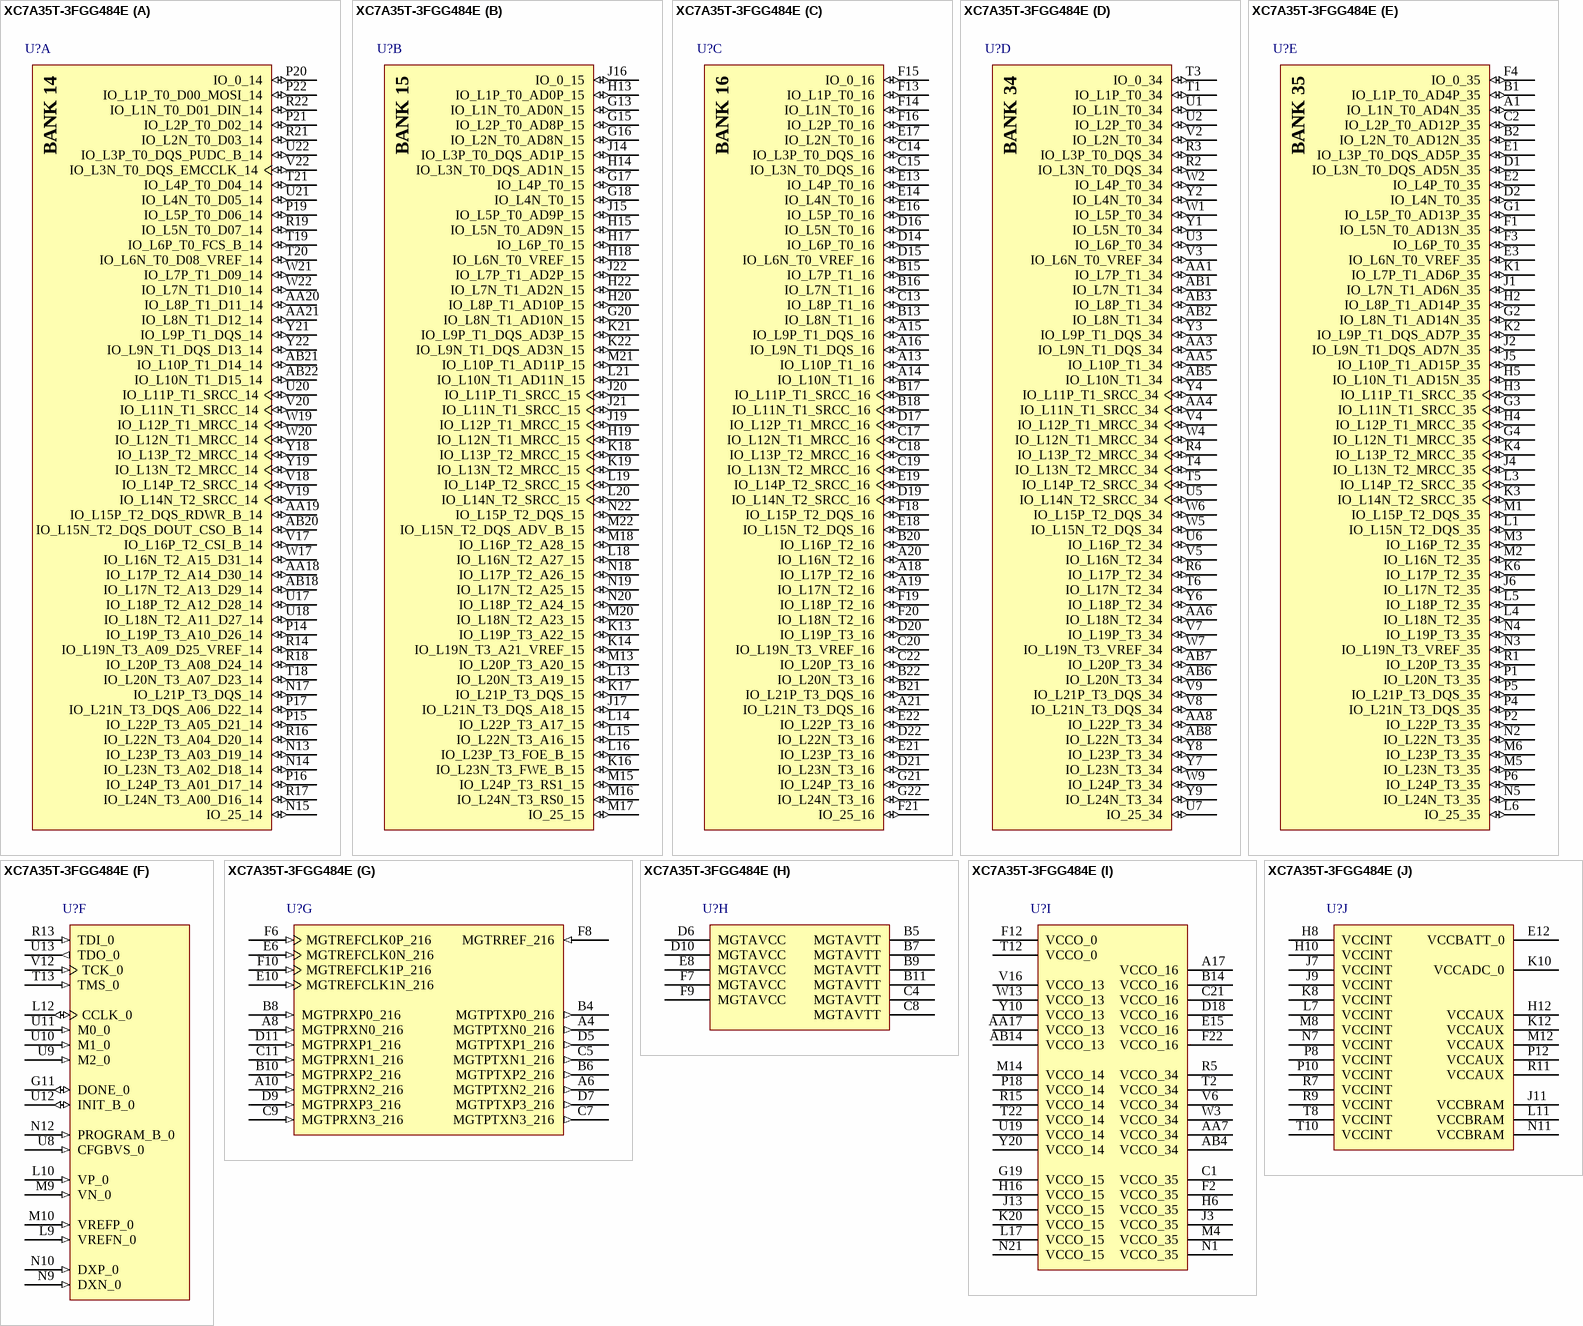
[diagram p23: symbol XC7A35T-3FGG484E]

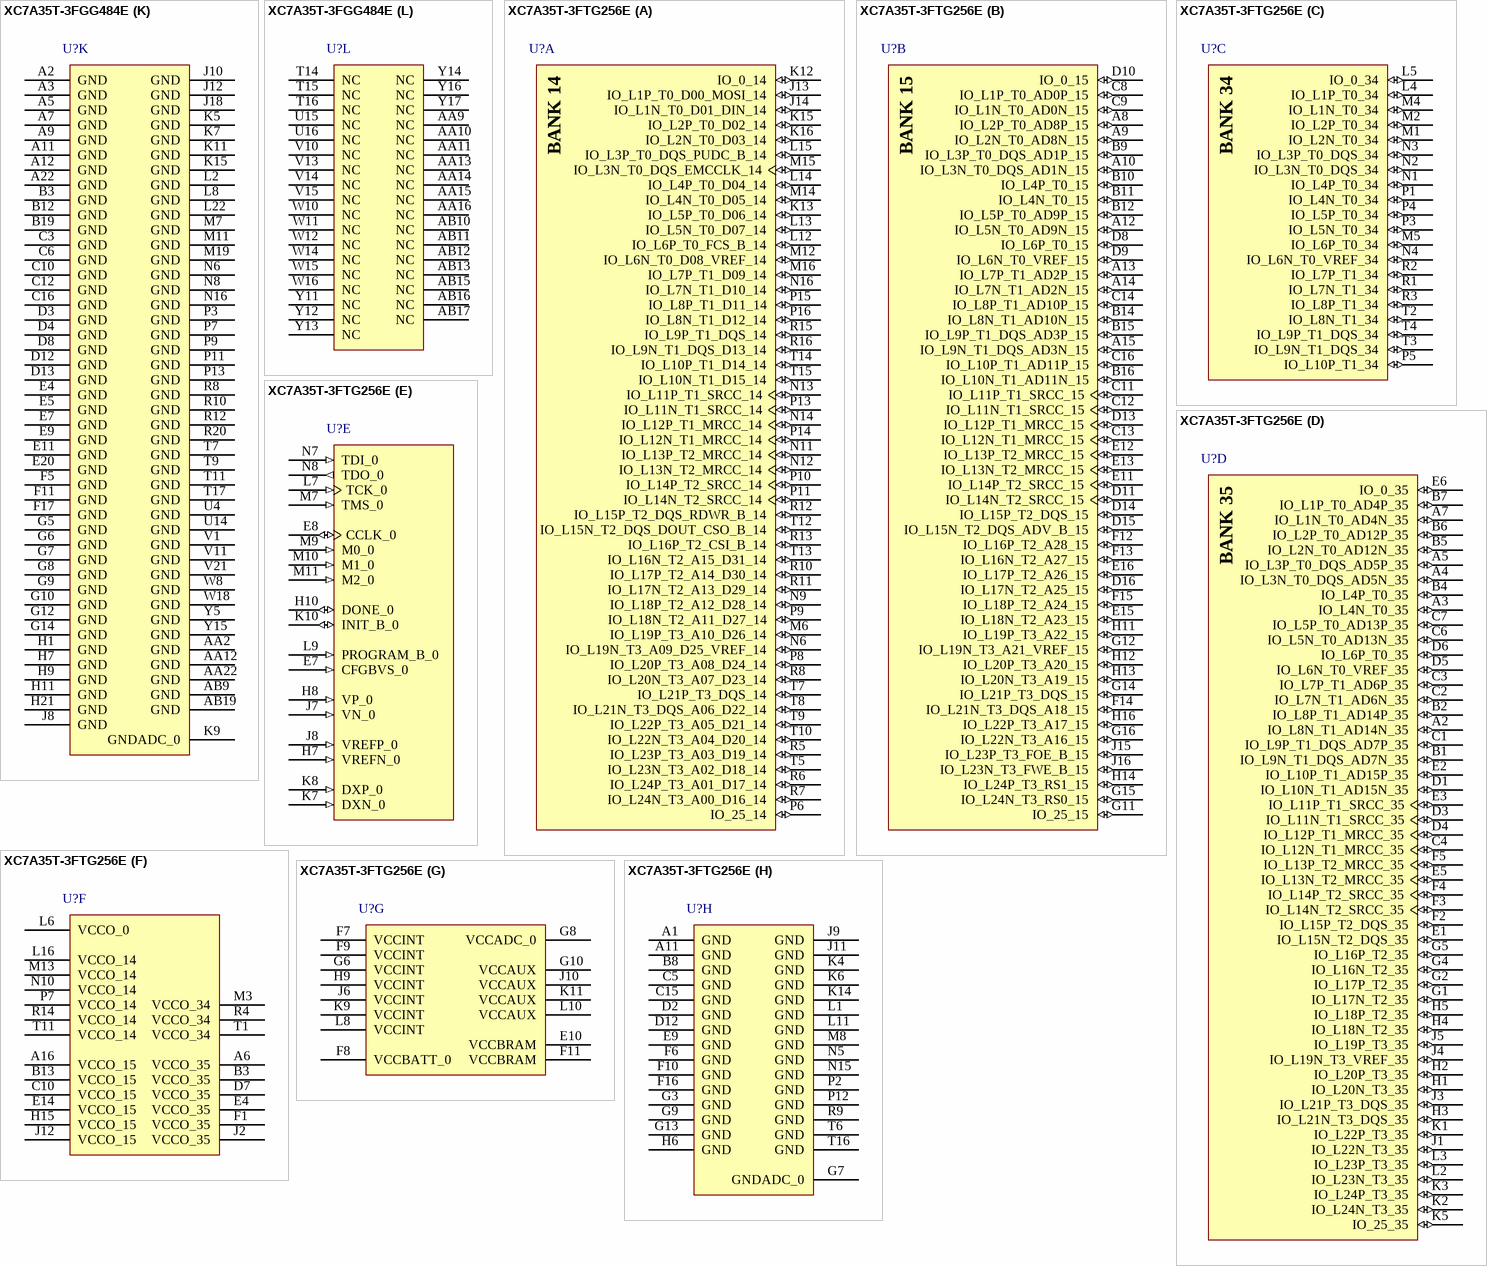
[diagram p24: symbols XC7A35T-3FGG484E to XC7A35T-3FTG256E]

## XC7A35T-3FGG484E
designator U?
Artix-7 FPGA, 250 User I/Os, 4 GTP, 484-Ball BGA, Speed Grade 3, Extended Grade, Pb-Free; Manufacturer: Xilinx; Total Block RAM: 1800 Kb; GTP: 4; Clock Mgmt Tiles (CMTs): 5; Logic Cells: 33280; Available User I/O: 250; Speed Grades: 3; NexusDeviceID: XC7A35T-3FGG484E; DatasheetVersion: v1.15; PackageVersion: Rev. 1.11; PackageReference: FGG484; PackageDescription: 484-Ball Wire-Bond Fine-Pitch BGA, Body 23 x 23 mm, Pitch 1 mm; Maximum Distributed RAM: 400 Kb; Operating Temperature Range: Extended; Mounting Technology: Surface Mount; PartNumber: XC7A35T-3FGG484E; ComponentLink1Description: Manufacturer URL; ComponentLink1URL: http://www.xilinx.com/; ComponentLink2Description: Datasheet; ComponentLink2URL: http://www.xilinx.com/support/documentation/data_sheets/ds180_7Series_Overview.pdf; ComponentLink3Description: Package Specification; ComponentLink3URL: http://www.xilinx.com/support/documentation/user_guides/ug475_7Series_Pkg_Pinout.pdf; ComponentLink4Description: DC and Switching Characteristics; ComponentLink4URL: http://www.xilinx.com/support/documentation/data_sheets/ds181_Artix_7_Data_Sheet.pdf; ComponentLink5Description: Package File; ComponentLink5URL: http://www.xilinx.com/support/packagefiles/a7packages/xc7a200tsbg484pkg.txt; ComponentLink6Description: Packaging and Pinout; ComponentLink6URL: http://www.xilinx.com/support/documentation/user_guides/ug475_7Series_Pkg_Pinout.pdf
footprint FGG484 (BGA, 484-Balls, Body 23x23mm, Pitch 1mm)
part A pins: AA18 IO_L17P_T2_A14_D30_14 (io), AA19 IO_L15P_T2_DQS_RDWR_B_14 (io), AA20 IO_L8P_T1_D11_14 (io), AA21 IO_L8N_T1_D12_14 (io), AB18 IO_L17N_T2_A13_D29_14 (io), AB20 IO_L15N_T2_DQS_DOUT_CSO_B_14 (io), AB21 IO_L10P_T1_D14_14 (io), AB22 IO_L10N_T1_D15_14 (io), N13 IO_L23P_T3_A03_D19_14 (io), N14 IO_L23N_T3_A02_D18_14 (io), N15 IO_25_14 (io), N17 IO_L21P_T3_DQS_14 (io), P14 IO_L19P_T3_A10_D26_14 (io), P15 IO_L22P_T3_A05_D21_14 (io), P16 IO_L24P_T3_A01_D17_14 (io), P17 IO_L21N_T3_DQS_A06_D22_14 (io), P19 IO_L5P_T0_D06_14 (io), P20 IO_0_14 (io), P21 IO_L2P_T0_D02_14 (io), P22 IO_L1P_T0_D00_MOSI_14 (io), R14 IO_L19N_T3_A09_D25_VREF_14 (io), R16 IO_L22N_T3_A04_D20_14 (io), R17 IO_L24N_T3_A00_D16_14 (io), R18 IO_L20P_T3_A08_D24_14 (io), R19 IO_L5N_T0_D07_14 (io), R21 IO_L2N_T0_D03_14 (io), R22 IO_L1N_T0_D01_DIN_14 (io), T18 IO_L20N_T3_A07_D23_14 (io), T19 IO_L6P_T0_FCS_B_14 (io), T20 IO_L6N_T0_D08_VREF_14 (io), T21 IO_L4P_T0_D04_14 (io), U17 IO_L18P_T2_A12_D28_14 (io), U18 IO_L18N_T2_A11_D27_14 (io), U20 IO_L11P_T1_SRCC_14 (io), U21 IO_L4N_T0_D05_14 (io), U22 IO_L3P_T0_DQS_PUDC_B_14 (io), V17 IO_L16P_T2_CSI_B_14 (io), V18 IO_L14P_T2_SRCC_14 (io), V19 IO_L14N_T2_SRCC_14 (io), V20 IO_L11N_T1_SRCC_14 (io), V22 IO_L3N_T0_DQS_EMCCLK_14 (io), W17 IO_L16N_T2_A15_D31_14 (io), W19 IO_L12P_T1_MRCC_14 (io), W20 IO_L12N_T1_MRCC_14 (io), W21 IO_L7P_T1_D09_14 (io), W22 IO_L7N_T1_D10_14 (io), Y18 IO_L13P_T2_MRCC_14 (io), Y19 IO_L13N_T2_MRCC_14 (io), Y21 IO_L9P_T1_DQS_14 (io), Y22 IO_L9N_T1_DQS_D13_14 (io)
part B pins: G13 IO_L1N_T0_AD0N_15 (io), G15 IO_L2P_T0_AD8P_15 (io), G16 IO_L2N_T0_AD8N_15 (io), G17 IO_L4P_T0_15 (io), G18 IO_L4N_T0_15 (io), G20 IO_L8N_T1_AD10N_15 (io), H13 IO_L1P_T0_AD0P_15 (io), H14 IO_L3N_T0_DQS_AD1N_15 (io), H15 IO_L5N_T0_AD9N_15 (io), H17 IO_L6P_T0_15 (io), H18 IO_L6N_T0_VREF_15 (io), H19 IO_L12N_T1_MRCC_15 (io), H20 IO_L8P_T1_AD10P_15 (io), H22 IO_L7N_T1_AD2N_15 (io), J14 IO_L3P_T0_DQS_AD1P_15 (io), J15 IO_L5P_T0_AD9P_15 (io), J16 IO_0_15 (io), J17 IO_L21N_T3_DQS_A18_15 (io), J19 IO_L12P_T1_MRCC_15 (io), J20 IO_L11P_T1_SRCC_15 (io), J21 IO_L11N_T1_SRCC_15 (io), J22 IO_L7P_T1_AD2P_15 (io), K13 IO_L19P_T3_A22_15 (io), K14 IO_L19N_T3_A21_VREF_15 (io), K16 IO_L23N_T3_FWE_B_15 (io), K17 IO_L21P_T3_DQS_15 (io), K18 IO_L13P_T2_MRCC_15 (io), K19 IO_L13N_T2_MRCC_15 (io), K21 IO_L9P_T1_DQS_AD3P_15 (io), K22 IO_L9N_T1_DQS_AD3N_15 (io), L13 IO_L20N_T3_A19_15 (io), L14 IO_L22P_T3_A17_15 (io), L15 IO_L22N_T3_A16_15 (io), L16 IO_L23P_T3_FOE_B_15 (io), L18 IO_L16N_T2_A27_15 (io), L19 IO_L14P_T2_SRCC_15 (io), L20 IO_L14N_T2_SRCC_15 (io), L21 IO_L10N_T1_AD11N_15 (io), M13 IO_L20P_T3_A20_15 (io), M15 IO_L24P_T3_RS1_15 (io), M16 IO_L24N_T3_RS0_15 (io), M17 IO_25_15 (io), M18 IO_L16P_T2_A28_15 (io), M20 IO_L18N_T2_A23_15 (io), M21 IO_L10P_T1_AD11P_15 (io), M22 IO_L15N_T2_DQS_ADV_B_15 (io), N18 IO_L17P_T2_A26_15 (io), N19 IO_L17N_T2_A25_15 (io), N20 IO_L18P_T2_A24_15 (io), N22 IO_L15P_T2_DQS_15 (io)
part C pins: A13 IO_L10P_T1_16 (io), A14 IO_L10N_T1_16 (io), A15 IO_L9P_T1_DQS_16 (io), A16 IO_L9N_T1_DQS_16 (io), A18 IO_L17P_T2_16 (io), A19 IO_L17N_T2_16 (io), A20 IO_L16N_T2_16 (io), A21 IO_L21N_T3_DQS_16 (io), B13 IO_L8N_T1_16 (io), B15 IO_L7P_T1_16 (io), B16 IO_L7N_T1_16 (io), B17 IO_L11P_T1_SRCC_16 (io), B18 IO_L11N_T1_SRCC_16 (io), B20 IO_L16P_T2_16 (io), B21 IO_L21P_T3_DQS_16 (io), B22 IO_L20N_T3_16 (io), C13 IO_L8P_T1_16 (io), C14 IO_L3P_T0_DQS_16 (io), C15 IO_L3N_T0_DQS_16 (io), C17 IO_L12N_T1_MRCC_16 (io), C18 IO_L13P_T2_MRCC_16 (io), C19 IO_L13N_T2_MRCC_16 (io), C20 IO_L19N_T3_VREF_16 (io), C22 IO_L20P_T3_16 (io), D14 IO_L6P_T0_16 (io), D15 IO_L6N_T0_VREF_16 (io), D16 IO_L5N_T0_16 (io), D17 IO_L12P_T1_MRCC_16 (io), D19 IO_L14N_T2_SRCC_16 (io), D20 IO_L19P_T3_16 (io), D21 IO_L23N_T3_16 (io), D22 IO_L22N_T3_16 (io), E13 IO_L4P_T0_16 (io), E14 IO_L4N_T0_16 (io), E16 IO_L5P_T0_16 (io), E17 IO_L2N_T0_16 (io), E18 IO_L15N_T2_DQS_16 (io), E19 IO_L14P_T2_SRCC_16 (io), E21 IO_L23P_T3_16 (io), E22 IO_L22P_T3_16 (io), F13 IO_L1P_T0_16 (io), F14 IO_L1N_T0_16 (io), F15 IO_0_16 (io), F16 IO_L2P_T0_16 (io), F18 IO_L15P_T2_DQS_16 (io), F19 IO_L18P_T2_16 (io), F20 IO_L18N_T2_16 (io), F21 IO_25_16 (io), G21 IO_L24P_T3_16 (io), G22 IO_L24N_T3_16 (io)
part D pins: AA1 IO_L7P_T1_34 (io), AA3 IO_L9N_T1_DQS_34 (io), AA4 IO_L11N_T1_SRCC_34 (io), AA5 IO_L10P_T1_34 (io), AA6 IO_L18N_T2_34 (io), AA8 IO_L22P_T3_34 (io), AB1 IO_L7N_T1_34 (io), AB2 IO_L8N_T1_34 (io), AB3 IO_L8P_T1_34 (io), AB5 IO_L10N_T1_34 (io), AB6 IO_L20N_T3_34 (io), AB7 IO_L20P_T3_34 (io), AB8 IO_L22N_T3_34 (io), R2 IO_L3N_T0_DQS_34 (io), R3 IO_L3P_T0_DQS_34 (io), R4 IO_L13P_T2_MRCC_34 (io), R6 IO_L17P_T2_34 (io), T1 IO_L1P_T0_34 (io), T3 IO_0_34 (io), T4 IO_L13N_T2_MRCC_34 (io), T5 IO_L14P_T2_SRCC_34 (io), T6 IO_L17N_T2_34 (io), U1 IO_L1N_T0_34 (io), U2 IO_L2P_T0_34 (io), U3 IO_L6P_T0_34 (io), U5 IO_L14N_T2_SRCC_34 (io), U6 IO_L16P_T2_34 (io), U7 IO_25_34 (io), V2 IO_L2N_T0_34 (io), V3 IO_L6N_T0_VREF_34 (io), V4 IO_L12P_T1_MRCC_34 (io), V5 IO_L16N_T2_34 (io), V7 IO_L19P_T3_34 (io), V8 IO_L21N_T3_DQS_34 (io), V9 IO_L21P_T3_DQS_34 (io), W1 IO_L5P_T0_34 (io), W2 IO_L4P_T0_34 (io), W4 IO_L12N_T1_MRCC_34 (io), W5 IO_L15N_T2_DQS_34 (io), W6 IO_L15P_T2_DQS_34 (io), W7 IO_L19N_T3_VREF_34 (io), W9 IO_L24P_T3_34 (io), Y1 IO_L5N_T0_34 (io), Y2 IO_L4N_T0_34 (io), Y3 IO_L9P_T1_DQS_34 (io), Y4 IO_L11P_T1_SRCC_34 (io), Y6 IO_L18P_T2_34 (io), Y7 IO_L23N_T3_34 (io), Y8 IO_L23P_T3_34 (io), Y9 IO_L24N_T3_34 (io)
part E pins: A1 IO_L1N_T0_AD4N_35 (io), B1 IO_L1P_T0_AD4P_35 (io), B2 IO_L2N_T0_AD12N_35 (io), C2 IO_L2P_T0_AD12P_35 (io), D1 IO_L3N_T0_DQS_AD5N_35 (io), D2 IO_L4N_T0_35 (io), E1 IO_L3P_T0_DQS_AD5P_35 (io), E2 IO_L4P_T0_35 (io), E3 IO_L6N_T0_VREF_35 (io), F1 IO_L5N_T0_AD13N_35 (io), F3 IO_L6P_T0_35 (io), F4 IO_0_35 (io), G1 IO_L5P_T0_AD13P_35 (io), G2 IO_L8N_T1_AD14N_35 (io), G3 IO_L11N_T1_SRCC_35 (io), G4 IO_L12N_T1_MRCC_35 (io), H2 IO_L8P_T1_AD14P_35 (io), H3 IO_L11P_T1_SRCC_35 (io), H4 IO_L12P_T1_MRCC_35 (io), H5 IO_L10N_T1_AD15N_35 (io), J1 IO_L7N_T1_AD6N_35 (io), J2 IO_L9N_T1_DQS_AD7N_35 (io), J4 IO_L13N_T2_MRCC_35 (io), J5 IO_L10P_T1_AD15P_35 (io), J6 IO_L17N_T2_35 (io), K1 IO_L7P_T1_AD6P_35 (io), K2 IO_L9P_T1_DQS_AD7P_35 (io), K3 IO_L14N_T2_SRCC_35 (io), K4 IO_L13P_T2_MRCC_35 (io), K6 IO_L17P_T2_35 (io), L1 IO_L15N_T2_DQS_35 (io), L3 IO_L14P_T2_SRCC_35 (io), L4 IO_L18N_T2_35 (io), L5 IO_L18P_T2_35 (io), L6 IO_25_35 (io), M1 IO_L15P_T2_DQS_35 (io), M2 IO_L16N_T2_35 (io), M3 IO_L16P_T2_35 (io), M5 IO_L23N_T3_35 (io), M6 IO_L23P_T3_35 (io), N2 IO_L22N_T3_35 (io), N3 IO_L19N_T3_VREF_35 (io), N4 IO_L19P_T3_35 (io), N5 IO_L24N_T3_35 (io), P1 IO_L20N_T3_35 (io), P2 IO_L22P_T3_35 (io), P4 IO_L21N_T3_DQS_35 (io), P5 IO_L21P_T3_DQS_35 (io), P6 IO_L24P_T3_35 (io), R1 IO_L20P_T3_35 (io)
part F pins: G11 DONE_0 (io), L9 VREFN_0 (in), L10 VP_0 (in), L12 CCLK_0 (io), M9 VN_0 (in), M10 VREFP_0 (in), N9 DXN_0 (in), N10 DXP_0 (in), N12 PROGRAM_B_0 (in), R13 TDI_0 (in), T13 TMS_0 (in), U8 CFGBVS_0 (in), U9 M2_0 (in), U10 M1_0 (in), U11 M0_0 (in), U12 INIT_B_0 (io), U13 TDO_0 (out), V12 TCK_0 (in)
part G pins: A4 MGTPTXN0_216 (out), A6 MGTPTXN2_216 (out), A8 MGTPRXN0_216 (in), A10 MGTPRXN2_216 (in), B4 MGTPTXP0_216 (out), B6 MGTPTXP2_216 (out), B8 MGTPRXP0_216 (in), B10 MGTPRXP2_216 (in), C5 MGTPTXN1_216 (out), C7 MGTPTXN3_216 (out), C9 MGTPRXN3_216 (in), C11 MGTPRXN1_216 (in), D5 MGTPTXP1_216 (out), D7 MGTPTXP3_216 (out), D9 MGTPRXP3_216 (in), D11 MGTPRXP1_216 (in), E6 MGTREFCLK0N_216 (in), E10 MGTREFCLK1N_216 (in), F6 MGTREFCLK0P_216 (in), F8 MGTRREF_216 (in), F10 MGTREFCLK1P_216 (in)
part H pins: B5 MGTAVTT (power), B7 MGTAVTT (power), B9 MGTAVTT (power), B11 MGTAVTT (power), C4 MGTAVTT (power), C8 MGTAVTT (power), D6 MGTAVCC (power), D10 MGTAVCC (power), E8 MGTAVCC (power), F7 MGTAVCC (power), F9 MGTAVCC (power)
part I pins: A17 VCCO_16 (power), AA7 VCCO_34 (power), AA17 VCCO_13 (power), AB4 VCCO_34 (power), AB14 VCCO_13 (power), B14 VCCO_16 (power), C1 VCCO_35 (power), C21 VCCO_16 (power), D18 VCCO_16 (power), E15 VCCO_16 (power), F2 VCCO_35 (power), F12 VCCO_0 (power), F22 VCCO_16 (power), G19 VCCO_15 (power), H6 VCCO_35 (power), H16 VCCO_15 (power), J3 VCCO_35 (power), J13 VCCO_15 (power), K20 VCCO_15 (power), L17 VCCO_15 (power), M4 VCCO_35 (power), M14 VCCO_14 (power), N1 VCCO_35 (power), N21 VCCO_15 (power), P18 VCCO_14 (power), R5 VCCO_34 (power), R15 VCCO_14 (power), T2 VCCO_34 (power), T12 VCCO_0 (power), T22 VCCO_14 (power), U19 VCCO_14 (power), V6 VCCO_34 (power), V16 VCCO_13 (power), W3 VCCO_34 (power), W13 VCCO_13 (power), Y10 VCCO_13 (power), Y20 VCCO_14 (power)
part J pins: E12 VCCBATT_0 (power), H8 VCCINT (power), H10 VCCINT (power), H12 VCCAUX (power), J7 VCCINT (power), J9 VCCINT (power), J11 VCCBRAM (power), K8 VCCINT (power), K10 VCCADC_0 (power), K12 VCCAUX (power), L7 VCCINT (power), L11 VCCBRAM (power), M8 VCCINT (power), M12 VCCAUX (power), N7 VCCINT (power), N11 VCCBRAM (power), P8 VCCINT (power), P10 VCCINT (power), P12 VCCAUX (power), R7 VCCINT (power), R9 VCCINT (power), R11 VCCAUX (power), T8 VCCINT (power), T10 VCCINT (power)
part K pins: A2 GND (power), A3 GND (power), A5 GND (power), A7 GND (power), A9 GND (power), A11 GND (power), A12 GND (power), A22 GND (power), AA2 GND (power), AA12 GND (power), AA22 GND (power), AB9 GND (power), AB19 GND (power), B3 GND (power), B12 GND (power), B19 GND (power), C3 GND (power), C6 GND (power), C10 GND (power), C12 GND (power), C16 GND (power), D3 GND (power), D4 GND (power), D8 GND (power), D12 GND (power), D13 GND (power), E4 GND (power), E5 GND (power), E7 GND (power), E9 GND (power), E11 GND (power), E20 GND (power), F5 GND (power), F11 GND (power), F17 GND (power), G5 GND (power), G6 GND (power), G7 GND (power), G8 GND (power), G9 GND (power), G10 GND (power), G12 GND (power), G14 GND (power), H1 GND (power), H7 GND (power), H9 GND (power), H11 GND (power), H21 GND (power), J8 GND (power), J10 GND (power), J12 GND (power), J18 GND (power), K5 GND (power), K7 GND (power), K9 GNDADC_0 (power), K11 GND (power), K15 GND (power), L2 GND (power), L8 GND (power), L22 GND (power), M7 GND (power), M11 GND (power), M19 GND (power), N6 GND (power), N8 GND (power), N16 GND (power), P3 GND (power), P7 GND (power), P9 GND (power), P11 GND (power), P13 GND (power), R8 GND (power), R10 GND (power), R12 GND (power), R20 GND (power), T7 GND (power), T9 GND (power), T11 GND (power), T17 GND (power), U4 GND (power), U14 GND (power), V1 GND (power), V11 GND (power), V21 GND (power), W8 GND (power), W18 GND (power), Y5 GND (power), Y15 GND (power)
part L pins: AA9 NC, AA10 NC, AA11 NC, AA13 NC, AA14 NC, AA15 NC, AA16 NC, AB10 NC, AB11 NC, AB12 NC, AB13 NC, AB15 NC, AB16 NC, AB17 NC, T14 NC, T15 NC, T16 NC, U15 NC, U16 NC, V10 NC, V13 NC, V14 NC, V15 NC, W10 NC, W11 NC, W12 NC, W14 NC, W15 NC, W16 NC, Y11 NC, Y12 NC, Y13 NC, Y14 NC, Y16 NC, Y17 NC
part A text: BANK 14
part B text: BANK 15
part C text: BANK 16
part D text: BANK 34
part E text: BANK 35

## XC7A35T-3FTG256E
designator U?
Artix-7 FPGA, 170 User I/Os, 0 GTP, 256-Ball BGA, Speed Grade 3, Extended Grade, Pb-Free; Manufacturer: Xilinx; Total Block RAM: 1800 Kb; GTP: 0; Clock Mgmt Tiles (CMTs): 5; Logic Cells: 33280; Available User I/O: 170; Speed Grades: 3; NexusDeviceID: XC7A35T-3FTG256E; DatasheetVersion: v1.15; PackageVersion: Rev. 1.11; PackageReference: FTG-256; PackageDescription: 256-Ball Wire-Bond Fine-Pitch Thin BGA, Body 17 x 17 mm, Pitch 1 mm; Maximum Distributed RAM: 400 Kb; Operating Temperature Range: Extended; Mounting Technology: Surface Mount; PartNumber: XC7A35T-3FTG256E; ComponentLink1Description: Manufacturer URL; ComponentLink1URL: http://www.xilinx.com/; ComponentLink2Description: Datasheet; ComponentLink2URL: http://www.xilinx.com/support/documentation/data_sheets/ds180_7Series_Overview.pdf; ComponentLink3Description: Package Specification; ComponentLink3URL: http://www.xilinx.com/support/documentation/user_guides/ug475_7Series_Pkg_Pinout.pdf; ComponentLink4Description: DC and Switching Characteristics; ComponentLink4URL: http://www.xilinx.com/support/documentation/data_sheets/ds181_Artix_7_Data_Sheet.pdf; ComponentLink5Description: Package File; ComponentLink5URL: http://www.xilinx.com/support/packagefiles/a7packages/xc7a200tsbg484pkg.txt; ComponentLink6Description: Packaging and Pinout; ComponentLink6URL: http://www.xilinx.com/support/documentation/user_guides/ug475_7Series_Pkg_Pinout.pdf
footprint FTG256 (BGA, 256-Balls, Body 17x17mm, Pitch 1mm)
part A pins: J13 IO_L1P_T0_D00_MOSI_14 (io), J14 IO_L1N_T0_D01_DIN_14 (io), K12 IO_0_14 (io), K13 IO_L5P_T0_D06_14 (io), K15 IO_L2P_T0_D02_14 (io), K16 IO_L2N_T0_D03_14 (io), L12 IO_L6P_T0_FCS_B_14 (io), L13 IO_L5N_T0_D07_14 (io), L14 IO_L4P_T0_D04_14 (io), L15 IO_L3P_T0_DQS_PUDC_B_14 (io), M6 IO_L19P_T3_A10_D26_14 (io), M12 IO_L6N_T0_D08_VREF_14 (io), M14 IO_L4N_T0_D05_14 (io), M15 IO_L3N_T0_DQS_EMCCLK_14 (io), M16 IO_L7P_T1_D09_14 (io), N6 IO_L19N_T3_A09_D25_VREF_14 (io), N9 IO_L18P_T2_A12_D28_14 (io), N11 IO_L13P_T2_MRCC_14 (io), N12 IO_L13N_T2_MRCC_14 (io), N13 IO_L11P_T1_SRCC_14 (io), N14 IO_L12P_T1_MRCC_14 (io), N16 IO_L7N_T1_D10_14 (io), P6 IO_25_14 (io), P8 IO_L20P_T3_A08_D24_14 (io), P9 IO_L18N_T2_A11_D27_14 (io), P10 IO_L14P_T2_SRCC_14 (io), P11 IO_L14N_T2_SRCC_14 (io), P13 IO_L11N_T1_SRCC_14 (io), P14 IO_L12N_T1_MRCC_14 (io), P15 IO_L8P_T1_D11_14 (io), P16 IO_L8N_T1_D12_14 (io), R5 IO_L23P_T3_A03_D19_14 (io), R6 IO_L24P_T3_A01_D17_14 (io), R7 IO_L24N_T3_A00_D16_14 (io), R8 IO_L20N_T3_A07_D23_14 (io), R10 IO_L17P_T2_A14_D30_14 (io), R11 IO_L17N_T2_A13_D29_14 (io), R12 IO_L15P_T2_DQS_RDWR_B_14 (io), R13 IO_L16P_T2_CSI_B_14 (io), R15 IO_L9P_T1_DQS_14 (io), R16 IO_L9N_T1_DQS_D13_14 (io), T5 IO_L23N_T3_A02_D18_14 (io), T7 IO_L21P_T3_DQS_14 (io), T8 IO_L21N_T3_DQS_A06_D22_14 (io), T9 IO_L22P_T3_A05_D21_14 (io), T10 IO_L22N_T3_A04_D20_14 (io), T12 IO_L15N_T2_DQS_DOUT_CSO_B_14 (io), T13 IO_L16N_T2_A15_D31_14 (io), T14 IO_L10P_T1_D14_14 (io), T15 IO_L10N_T1_D15_14 (io)
part B pins: A8 IO_L2P_T0_AD8P_15 (io), A9 IO_L2N_T0_AD8N_15 (io), A10 IO_L3N_T0_DQS_AD1N_15 (io), A12 IO_L5N_T0_AD9N_15 (io), A13 IO_L7P_T1_AD2P_15 (io), A14 IO_L7N_T1_AD2N_15 (io), A15 IO_L9N_T1_DQS_AD3N_15 (io), B9 IO_L3P_T0_DQS_AD1P_15 (io), B10 IO_L4P_T0_15 (io), B11 IO_L4N_T0_15 (io), B12 IO_L5P_T0_AD9P_15 (io), B14 IO_L8N_T1_AD10N_15 (io), B15 IO_L9P_T1_DQS_AD3P_15 (io), B16 IO_L10N_T1_AD11N_15 (io), C8 IO_L1P_T0_AD0P_15 (io), C9 IO_L1N_T0_AD0N_15 (io), C11 IO_L11P_T1_SRCC_15 (io), C12 IO_L11N_T1_SRCC_15 (io), C13 IO_L12N_T1_MRCC_15 (io), C14 IO_L8P_T1_AD10P_15 (io), C16 IO_L10P_T1_AD11P_15 (io), D8 IO_L6P_T0_15 (io), D9 IO_L6N_T0_VREF_15 (io), D10 IO_0_15 (io), D11 IO_L14N_T2_SRCC_15 (io), D13 IO_L12P_T1_MRCC_15 (io), D14 IO_L15P_T2_DQS_15 (io), D15 IO_L15N_T2_DQS_ADV_B_15 (io), D16 IO_L17N_T2_A25_15 (io), E11 IO_L14P_T2_SRCC_15 (io), E12 IO_L13P_T2_MRCC_15 (io), E13 IO_L13N_T2_MRCC_15 (io), E15 IO_L18N_T2_A23_15 (io), E16 IO_L17P_T2_A26_15 (io), F12 IO_L16P_T2_A28_15 (io), F13 IO_L16N_T2_A27_15 (io), F14 IO_L21N_T3_DQS_A18_15 (io), F15 IO_L18P_T2_A24_15 (io), G11 IO_25_15 (io), G12 IO_L19N_T3_A21_VREF_15 (io), G14 IO_L21P_T3_DQS_15 (io), G15 IO_L24N_T3_RS0_15 (io), G16 IO_L22N_T3_A16_15 (io), H11 IO_L19P_T3_A22_15 (io), H12 IO_L20P_T3_A20_15 (io), H13 IO_L20N_T3_A19_15 (io), H14 IO_L24P_T3_RS1_15 (io), H16 IO_L22P_T3_A17_15 (io), J15 IO_L23P_T3_FOE_B_15 (io), J16 IO_L23N_T3_FWE_B_15 (io)
part C pins: L4 IO_L1P_T0_34 (io), L5 IO_0_34 (io), M1 IO_L2N_T0_34 (io), M2 IO_L2P_T0_34 (io), M4 IO_L1N_T0_34 (io), M5 IO_L6P_T0_34 (io), N1 IO_L4P_T0_34 (io), N2 IO_L3N_T0_DQS_34 (io), N3 IO_L3P_T0_DQS_34 (io), N4 IO_L6N_T0_VREF_34 (io), P1 IO_L4N_T0_34 (io), P3 IO_L5N_T0_34 (io), P4 IO_L5P_T0_34 (io), P5 IO_L10P_T1_34 (io), R1 IO_L7N_T1_34 (io), R2 IO_L7P_T1_34 (io), R3 IO_L8P_T1_34 (io), T2 IO_L8N_T1_34 (io), T3 IO_L9N_T1_DQS_34 (io), T4 IO_L9P_T1_DQS_34 (io)
part D pins: A2 IO_L8N_T1_AD14N_35 (io), A3 IO_L4N_T0_35 (io), A4 IO_L3N_T0_DQS_AD5N_35 (io), A5 IO_L3P_T0_DQS_AD5P_35 (io), A7 IO_L1N_T0_AD4N_35 (io), B1 IO_L9N_T1_DQS_AD7N_35 (io), B2 IO_L8P_T1_AD14P_35 (io), B4 IO_L4P_T0_35 (io), B5 IO_L2N_T0_AD12N_35 (io), B6 IO_L2P_T0_AD12P_35 (io), B7 IO_L1P_T0_AD4P_35 (io), C1 IO_L9P_T1_DQS_AD7P_35 (io), C2 IO_L7N_T1_AD6N_35 (io), C3 IO_L7P_T1_AD6P_35 (io), C4 IO_L12N_T1_MRCC_35 (io), C6 IO_L5N_T0_AD13N_35 (io), C7 IO_L5P_T0_AD13P_35 (io), D1 IO_L10N_T1_AD15N_35 (io), D3 IO_L11N_T1_SRCC_35 (io), D4 IO_L12P_T1_MRCC_35 (io), D5 IO_L6N_T0_VREF_35 (io), D6 IO_L6P_T0_35 (io), E1 IO_L15N_T2_DQS_35 (io), E2 IO_L10P_T1_AD15P_35 (io), E3 IO_L11P_T1_SRCC_35 (io), E5 IO_L13N_T2_MRCC_35 (io), E6 IO_0_35 (io), F2 IO_L15P_T2_DQS_35 (io), F3 IO_L14N_T2_SRCC_35 (io), F4 IO_L14P_T2_SRCC_35 (io), F5 IO_L13P_T2_MRCC_35 (io), G1 IO_L17N_T2_35 (io), G2 IO_L17P_T2_35 (io), G4 IO_L16N_T2_35 (io), G5 IO_L16P_T2_35 (io), H1 IO_L20N_T3_35 (io), H2 IO_L20P_T3_35 (io), H3 IO_L21N_T3_DQS_35 (io), H4 IO_L18N_T2_35 (io), H5 IO_L18P_T2_35 (io), J1 IO_L22N_T3_35 (io), J3 IO_L21P_T3_DQS_35 (io), J4 IO_L19N_T3_VREF_35 (io), J5 IO_L19P_T3_35 (io), K1 IO_L22P_T3_35 (io), K2 IO_L24N_T3_35 (io), K3 IO_L24P_T3_35 (io), K5 IO_25_35 (io), L2 IO_L23N_T3_35 (io), L3 IO_L23P_T3_35 (io)
part E pins: E7 CFGBVS_0 (in), E8 CCLK_0 (io), H7 VREFN_0 (in), H8 VP_0 (in), H10 DONE_0 (io), J7 VN_0 (in), J8 VREFP_0 (in), K7 DXN_0 (in), K8 DXP_0 (in), K10 INIT_B_0 (io), L7 TCK_0 (in), L9 PROGRAM_B_0 (in), M7 TMS_0 (in), M9 M0_0 (in), M10 M1_0 (in), M11 M2_0 (in), N7 TDI_0 (in), N8 TDO_0 (out)
part F pins: A6 VCCO_35 (power), A16 VCCO_15 (power), B3 VCCO_35 (power), B13 VCCO_15 (power), C10 VCCO_15 (power), D7 VCCO_35 (power), E4 VCCO_35 (power), E14 VCCO_15 (power), F1 VCCO_35 (power), H15 VCCO_15 (power), J2 VCCO_35 (power), J12 VCCO_15 (power), L6 VCCO_0 (power), L16 VCCO_14 (power), M3 VCCO_34 (power), M13 VCCO_14 (power), N10 VCCO_14 (power), P7 VCCO_14 (power), R4 VCCO_34 (power), R14 VCCO_14 (power), T1 VCCO_34 (power), T11 VCCO_14 (power)
part G pins: E10 VCCBRAM (power), F7 VCCINT (power), F8 VCCBATT_0 (power), F9 VCCINT (power), F11 VCCBRAM (power), G6 VCCINT (power), G8 VCCADC_0 (power), G10 VCCAUX (power), H9 VCCINT (power), J6 VCCINT (power), J10 VCCAUX (power), K9 VCCINT (power), K11 VCCAUX (power), L8 VCCINT (power), L10 VCCAUX (power)
part H pins: A1 GND (power), A11 GND (power), B8 GND (power), C5 GND (power), C15 GND (power), D2 GND (power), D12 GND (power), E9 GND (power), F6 GND (power), F10 GND (power), F16 GND (power), G3 GND (power), G7 GNDADC_0 (power), G9 GND (power), G13 GND (power), H6 GND (power), J9 GND (power), J11 GND (power), K4 GND (power), K6 GND (power), K14 GND (power), L1 GND (power), L11 GND (power), M8 GND (power), N5 GND (power), N15 GND (power), P2 GND (power), P12 GND (power), R9 GND (power), T6 GND (power), T16 GND (power)
part A text: BANK 14
part B text: BANK 15
part C text: BANK 34
part D text: BANK 35

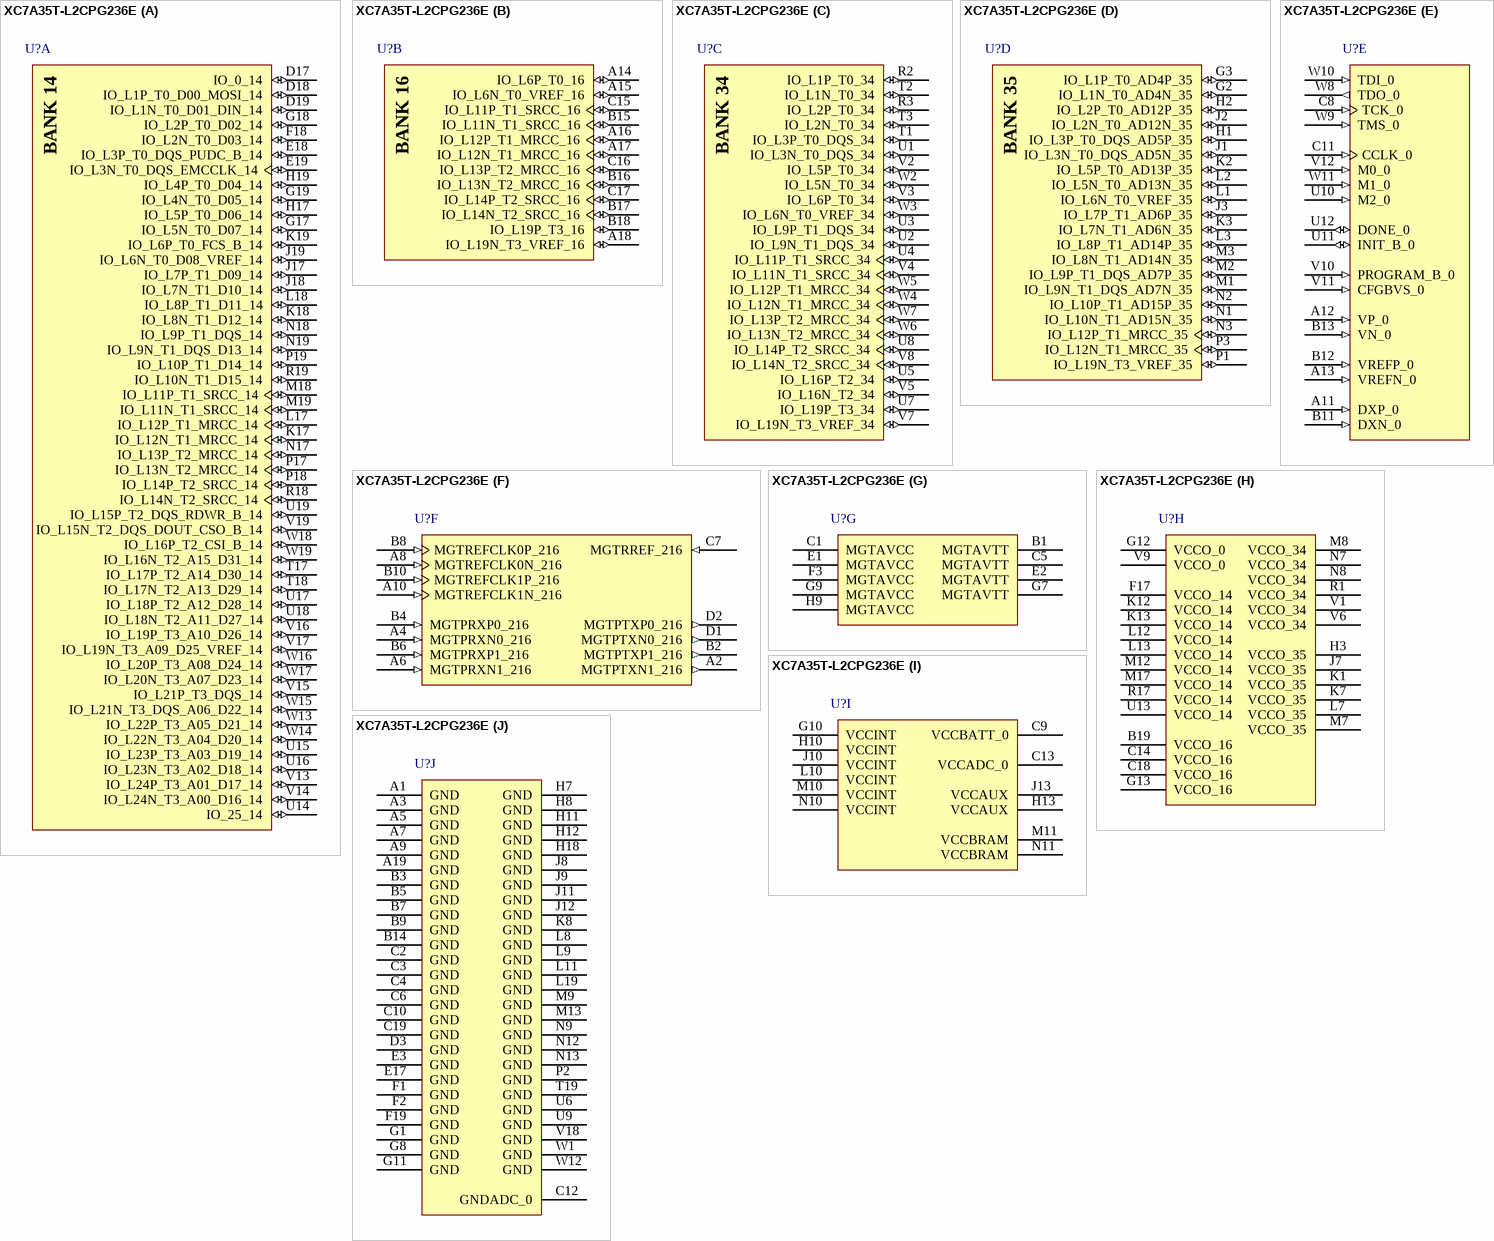
[diagram p25: symbol XC7A35T-L2CPG236E]